# Altium schematic symbol library Sch_Device_veryaz.SchLib: 648 symbols (part 4 of 4)
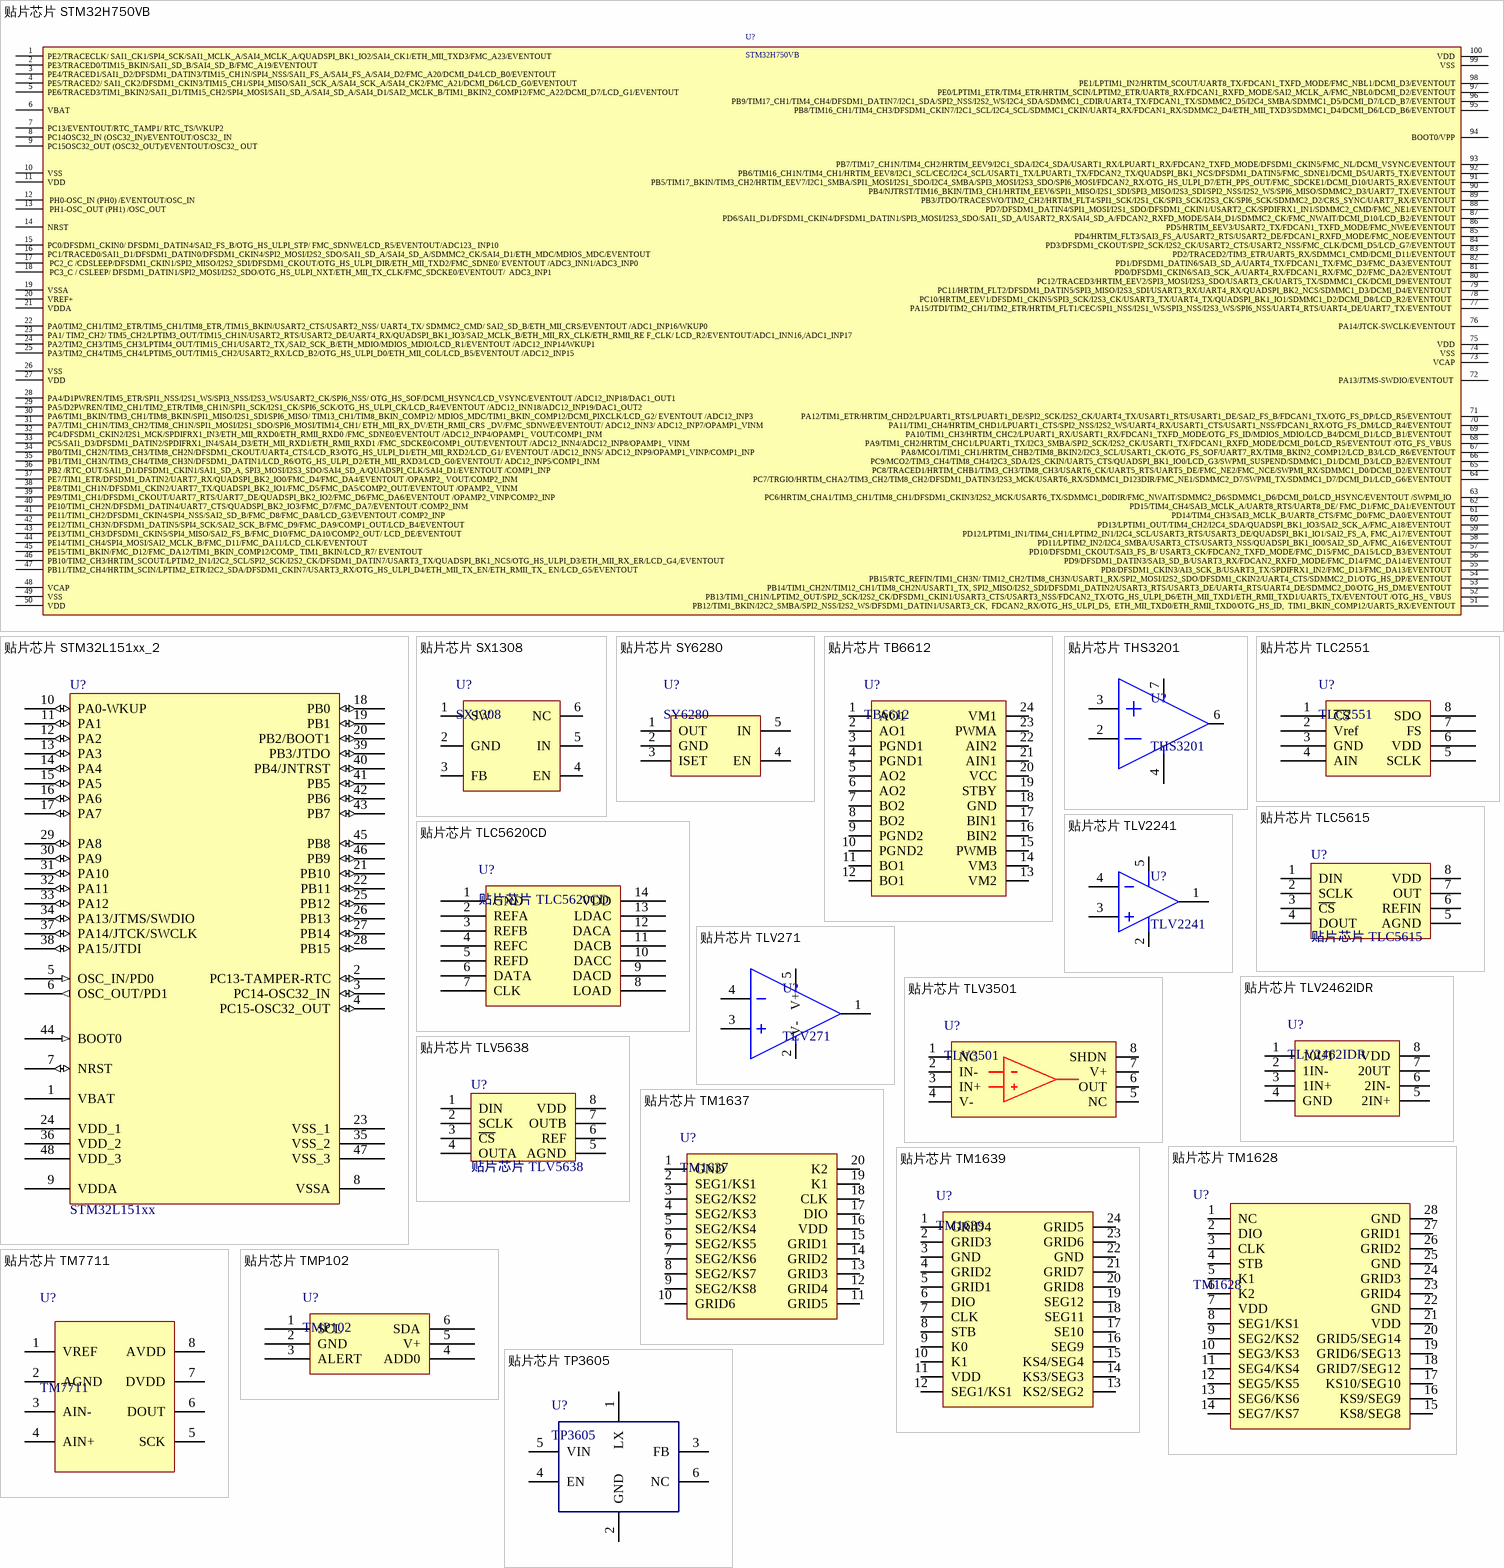
[diagram p34: symbols 贴片芯片 STM32H750VB to 贴片芯片 TP3605]

## 贴片芯片 STM32H750VB
designator U?, comment STM32H750VB
名称: 贴片芯片; 封装: LQFP100; 单位: 片
footprint LQFP100
pins: 1 PE2/TRACECLK/ SAI1_CK1/SPI4_SCK/SAI1_MCLK_A/SAI4_MCLK_A/QUADSPI_BK1_IO2/SAI4_CK1/ETH_MII_TXD3/FMC_A23/EVENTOUT  , 2 PE3/TRACED0/TIM15_BKIN/SAI1_SD_B/SAI4_SD_B/FMC_A19/EVENTOUT  , 3 PE4/TRACED1/SAI1_D2/DFSDM1_DATIN3/TIM15_CH1N/SPI4_NSS/SAI1_FS_A/SAI4_FS_A/SAI4_D2/FMC_A20/DCMI_D4/LCD_B0/EVENTOUT  , 4 PE5/TRACED2/ SAI1_CK2/DFSDM1_CKIN3/TIM15_CH1/SPI4_MISO/SAI1_SCK_A/SAI4_SCK_A/SAI4_CK2/FMC_A21/DCMI_D6/LCD_G0/EVENTOUT  , 5 PE6/TRACED3/TIM1_BKIN2/SAI1_D1/TIM15_CH2/SPI4_MOSI/SAI1_SD_A/SAI4_SD_A/SAI4_D1/SAI2_MCLK_B/TIM1_BKIN2_COMP12/FMC_A22/DCMI_D7/LCD_G1/EVENTOUT  , 6 VBAT, 7 PC13/EVENTOUT/RTC_TAMP1/ RTC_TS/WKUP2 , 8 PC14OSC32_IN (OSC32_IN)/EVENTOUT/OSC32_ IN, 9 PC15OSC32_OUT (OSC32_OUT)/EVENTOUT/OSC32_ OUT, 10 VSS, 11 VDD, 12  PH0-OSC_IN (PH0) /EVENTOUT/OSC_IN, 13  PH1-OSC_OUT (PH1) /OSC_OUT, 14 NRST, 15 PC0/DFSDM1_CKIN0/ DFSDM1_DATIN4/SAI2_FS_B/OTG_HS_ULPI_STP/ FMC_SDNWE/LCD_R5/EVENTOUT/ADC123_ INP10    , 16 PC1/TRACED0/SAI1_D1/DFSDM1_DATIN0/DFSDM1_CKIN4/SPI2_MOSI/I2S2_SDO/SAI1_SD_A/SAI4_SD_A/SDMMC2_CK/SAI4_D1/ETH_MDC/MDIOS_MDC/EVENTOUT  , 17  PC2_C /CDSLEEP/DFSDM1_CKIN1/SPI2_MISO/I2S2_SDI/DFSDM1_CKOUT/OTG_HS_ULPI_DIR/ETH_MII_TXD2/FMC_SDNE0/ EVENTOUT /ADC3_INN1/ADC3_INP0   , 18  PC3_C / CSLEEP/ DFSDM1_DATIN1/SPI2_MOSI/I2S2_SDO/OTG_HS_ULPI_NXT/ETH_MII_TX_CLK/FMC_SDCKE0/EVENTOUT/  ADC3_INP1 , 19 VSSA, 20 VREF+, 21 VDDA, 22 PA0/TIM2_CH1/TIM2_ETR/TIM5_CH1/TIM8_ETR,/TIM15_BKIN/USART2_CTS/USART2_NSS/ UART4_TX/ SDMMC2_CMD/ SAI2_SD_B/ETH_MII_CRS/EVENTOUT /ADC1_INP16/WKUP0 , 23 PA1/ TIM2_CH2/ TIM5_CH2/LPTIM3_OUT/TIM15_CH1N/USART2_RTS/USART2_DE/UART4_RX/QUADSPI_BK1_IO3/SAI2_MCLK_B/ETH_MII_RX_CLK/ETH_RMII_RE F_CLK/ LCD_R2/EVENTOUT/ADC1_INN16,/ADC1_INP17    , 24 PA2/TIM2_CH3/TIM5_CH3/LPTIM4_OUT/TIM15_CH1/USART2_TX,/SAI2_SCK_B/ETH_MDIO/MDIOS_MDIO/LCD_R1/EVENTOUT /ADC12_INP14/WKUP1  , 25 PA3/TIM2_CH4/TIM5_CH4/LPTIM5_OUT/TIM15_CH2/USART2_RX/LCD_B2/OTG_HS_ULPI_D0/ETH_MII_COL/LCD_B5/EVENTOUT /ADC12_INP15  , 26 VSS, 27 VDD, 28 PA4/D1PWREN/TIM5_ETR/SPI1_NSS/I2S1_WS/SPI3_NSS/I2S3_WS/USART2_CK/SPI6_NSS/ OTG_HS_SOF/DCMI_HSYNC/LCD_VSYNC/EVENTOUT /ADC12_INP18/DAC1_OUT1  , 29 PA5/D2PWREN/TIM2_CH1/TIM2_ETR/TIM8_CH1N/SPI1_SCK/I2S1_CK/SPI6_SCK/OTG_HS_ULPI_CK/LCD_R4/EVENTOUT /ADC12_INN18/ADC12_INP19/DAC1_OUT2  , 30 PA6/TIM1_BKIN/TIM3_CH1/TIM8_BKIN/SPI1_MISO/I2S1_SDI/SPI6_MISO/ TIM13_CH1/TIM8_BKIN_COMP12/ MDIOS_MDC/TIM1_BKIN_COMP12/DCMI_PIXCLK/LCD_G2/ EVENTOUT /ADC12_INP3  , 31 PA7/TIM1_CH1N/TIM3_CH2/TIM8_CH1N/SPI1_MOSI/I2S1_SDO/SPI6_MOSI/TIM14_CH1/ ETH_MII_RX_DV/ETH_RMII_CRS _DV/FMC_SDNWE/EVENTOUT/ ADC12_INN3/ ADC12_INP7/OPAMP1_VINM  , 32 PC4/DFSDM1_CKIN2/I2S1_MCK/SPDIFRX1_IN3/ETH_MII_RXD0/ETH_RMII_RXD0 /FMC_SDNE0/EVENTOUT /ADC12_INP4/OPAMP1_ VOUT/COMP1_INM  , 33 PC5/SAI1_D3/DFSDM1_DATIN2/SPDIFRX1_IN4/SAI4_D3/ETH_MII_RXD1/ETH_RMII_RXD1 /FMC_SDCKE0/COMP1_OUT/EVENTOUT /ADC12_INN4/ADC12_INP8/OPAMP1_ VINM  , 34 PB0/TIM1_CH2N/TIM3_CH3/TIM8_CH2N/DFSDM1_CKOUT/UART4_CTS/LCD_R3/OTG_HS_ULPI_D1/ETH_MII_RXD2/LCD_G1/ EVENTOUT /ADC12_INN5/ ADC12_INP9/OPAMP1_VINP/COMP1_INP  , 35 PB1/TIM1_CH3N/TIM3_CH4/TIM8_CH3N/DFSDM1_DATIN1/LCD_R6/OTG_HS_ULPI_D2/ETH_MII_RXD3/LCD_G0/EVENTOUT/ ADC12_INP5/COMP1_INM  , 36 PB2 /RTC_OUT/SAI1_D1/DFSDM1_CKIN1/SAI1_SD_A, SPI3_MOSI/I2S3_SDO/SAI4_SD_A/QUADSPI_CLK/SAI4_D1/EVENTOUT /COMP1_INP  , 37 PE7/TIM1_ETR/DFSDM1_DATIN2/UART7_RX/QUADSPI_BK2_IO0/FMC_D4/FMC_DA4/EVENTOUT /OPAMP2_ VOUT/COMP2_INM  , 38 PE8/TIM1_CH1N/DFSDM1_CKIN2/UART7_TX/QUADSPI_BK2_IO1/FMC_D5/FMC_DA5/COMP2_OUT/EVENTOUT /OPAMP2_ VINM  , 39 PE9/TIM1_CH1/DFSDM1_CKOUT/UART7_RTS/UART7_DE/QUADSPI_BK2_IO2/FMC_D6/FMC_DA6/EVENTOUT /OPAMP2_VINP/COMP2_INP  , 40 PE10/TIM1_CH2N/DFSDM1_DATIN4/UART7_CTS/QUADSPI_BK2_IO3/FMC_D7/FMC_DA7/EVENTOUT /COMP2_INM  , 41 PE11/TIM1_CH2/DFSDM1_CKIN4/SPI4_NSS/SAI2_SD_B/FMC_D8/FMC_DA8/LCD_G3/EVENTOUT /COMP2_INP  , 42 PE12/TIM1_CH3N/DFSDM1_DATIN5/SPI4_SCK/SAI2_SCK_B/FMC_D9/FMC_DA9/COMP1_OUT/LCD_B4/EVENTOUT, 43 PE13/TIM1_CH3/DFSDM1_CKIN5/SPI4_MISO/SAI2_FS_B/FMC_D10/FMC_DA10/COMP2_OUT/ LCD_DE/EVENTOUT  , 44 PE14/TIM1_CH4/SPI4_MOSI/SAI2_MCLK_B/FMC_D11/FMC_DA11/LCD_CLK/EVENTOUT  , 45 PE15/TIM1_BKIN/FMC_D12/FMC_DA12/TIM1_BKIN_COMP12/COMP_ TIM1_BKIN/LCD_R7/ EVENTOUT  , 46 PB10/TIM2_CH3/HRTIM_SCOUT/LPTIM2_IN1/I2C2_SCL/SPI2_SCK/I2S2_CK/DFSDM1_DATIN7/USART3_TX/QUADSPI_BK1_NCS/OTG_HS_ULPI_D3/ETH_MII_RX_ER/LCD_G4,/EVENTOUT  , 47 PB11/TIM2_CH4/HRTIM_SCIN/LPTIM2_ETR/I2C2_SDA/DFSDM1_CKIN7/USART3_RX/OTG_HS_ULPI_D4/ETH_MII_TX_EN/ETH_RMII_TX_ EN/LCD_G5/EVENTOUT  , 48 VCAP, 49 VSS, 50 VDD, 51 PB12/TIM1_BKIN/I2C2_SMBA/SPI2_NSS/I2S2_WS/DFSDM1_DATIN1/USART3_CK,  FDCAN2_RX/OTG_HS_ULPI_D5,  ETH_MII_TXD0/ETH_RMII_TXD0/OTG_HS_ID,  TIM1_BKIN_COMP12/UART5_RX/EVENTOUT, 52 PB13/TIM1_CH1N/LPTIM2_OUT/SPI2_SCK/I2S2_CK/DFSDM1_CKIN1/USART3_CTS/USART3_NSS/FDCAN2_TX/OTG_HS_ULPI_D6/ETH_MII_TXD1/ETH_RMII_TXD1/UART5_TX/EVENTOUT /OTG_HS_ VBUS  , 53 PB14/TIM1_CH2N/TIM12_CH1/TIM8_CH2N/USART1_TX, SPI2_MISO/I2S2_SDI/DFSDM1_DATIN2/USART3_RTS/USART3_DE/UART4_RTS/UART4_DE/SDMMC2_D0/OTG_HS_DM/EVENTOUT  , 54  PB15/RTC_REFIN/TIM1_CH3N/ TIM12_CH2/TIM8_CH3N/USART1_RX/SPI2_MOSI/I2S2_SDO/DFSDM1_CKIN2/UART4_CTS/SDMMC2_D1/OTG_HS_DP/EVENTOUT  , 55  PD8/DFSDM1_CKIN3/AI3_SCK_B/USART3_TX/SPDIFRX1_IN2/FMC_D13/FMC_DA13/EVENTOUT  , 56 PD9/DFSDM1_DATIN3/SAI3_SD_B/USART3_RX/FDCAN2_RXFD_MODE/FMC_D14/FMC_DA14/EVENTOUT  , 57 PD10/DFSDM1_CKOUT/SAI3_FS_B/ USART3_CK/FDCAN2_TXFD_MODE/FMC_D15/FMC_DA15/LCD_B3/EVENTOUT  , 58 PD11/LPTIM2_IN2/I2C4_SMBA/USART3_CTS/USART3_NSS/QUADSPI_BK1_IO0/SAI2_SD_A/FMC_A16/EVENTOUT  , 59 PD12/LPTIM1_IN1/TIM4_CH1/LPTIM2_IN1/I2C4_SCL/USART3_RTS/USART3_DE/QUADSPI_BK1_IO1/SAI2_FS_A, FMC_A17/EVENTOUT  , 60  PD13/LPTIM1_OUT/TIM4_CH2/I2C4_SDA/QUADSPI_BK1_IO3/SAI2_SCK_A/FMC_A18/EVENTOUT  , 61 PD14/TIM4_CH3/SAI3_MCLK_B/UART8_CTS/FMC_D0/FMC_DA0/EVENTOUT  , 62 PD15/TIM4_CH4/SAI3_MCLK_A/UART8_RTS/UART8_DE/ FMC_D1/FMC_DA1/EVENTOUT, 63 PC6/HRTIM_CHA1/TIM3_CH1/TIM8_CH1/DFSDM1_CKIN3/I2S2_MCK/USART6_TX/SDMMC1_D0DIR/FMC_NWAIT/SDMMC2_D6/SDMMC1_D6/DCMI_D0/LCD_HSYNC/EVENTOUT /SWPMI_IO  , 64  PC7/TRGIO/HRTIM_CHA2/TIM3_CH2/TIM8_CH2/DFSDM1_DATIN3/I2S3_MCK/USART6_RX/SDMMC1_D123DIR/FMC_NE1/SDMMC2_D7/SWPMI_TX/SDMMC1_D7/DCMI_D1/LCD_G6/EVENTOUT  , 65 PC8/TRACED1/HRTIM_CHB1/TIM3_CH3/TIM8_CH3/USART6_CK/UART5_RTS/UART5_DE/FMC_NE2/FMC_NCE/SWPMI_RX/SDMMC1_D0/DCMI_D2/EVENTOUT  , 66 PC9/MCO2/TIM3_CH4/TIM8_CH4/I2C3_SDA/I2S_CKIN/UART5_CTS/QUADSPI_BK1_IO0/LCD_G3/SWPMI_SUSPEND/SDMMC1_D1/DCMI_D3/LCD_B2/EVENTOUT  , 67  PA8/MCO1/TIM1_CH1/HRTIM_CHB2/TIM8_BKIN2/I2C3_SCL/USART1_CK/OTG_FS_SOF/UART7_RX/TIM8_BKIN2_COMP12/LCD_B3/LCD_R6/EVENTOUT, 68 PA9/TIM1_CH2/HRTIM_CHC1/LPUART1_TX/I2C3_SMBA/SPI2_SCK/I2S2_CK/USART1_TX/FDCAN1_RXFD_MODE/DCMI_D0/LCD_R5/EVENTOUT /OTG_FS_VBUS  , 69 PA10/TIM1_CH3/HRTIM_CHC2/LPUART1_RX/USART1_RX/FDCAN1_TXFD_MODE/OTG_FS_ID/MDIOS_MDIO/LCD_B4/DCMI_D1/LCD_B1/EVENTOUT  , 70 PA11/TIM1_CH4/HRTIM_CHD1/LPUART1_CTS/SPI2_NSS/I2S2_WS/UART4_RX/USART1_CTS/USART1_NSS/FDCAN1_RX/OTG_FS_DM/LCD_R4/EVENTOUT  , 71 PA12/TIM1_ETR/HRTIM_CHD2/LPUART1_RTS/LPUART1_DE/SPI2_SCK/I2S2_CK/UART4_TX/USART1_RTS/USART1_DE/SAI2_FS_B/FDCAN1_TX/OTG_FS_DP/LCD_R5/EVENTOUT  , 72 PA13/JTMS-SWDIO/EVENTOUT , 73 VCAP, 74 VSS, 75 VDD, 76  PA14/JTCK-SWCLK/EVENTOUT, 77 PA15/JTDI/TIM2_CH1/TIM2_ETR/HRTIM_FLT1/CEC/SPI1_NSS/I2S1_WS/SPI3_NSS/I2S3_WS/SPI6_NSS/UART4_RTS/UART4_DE/UART7_TX/EVENTOUT  , 78 PC10/HRTIM_EEV1/DFSDM1_CKIN5/SPI3_SCK/I2S3_CK/USART3_TX/UART4_TX/QUADSPI_BK1_IO1/SDMMC1_D2/DCMI_D8/LCD_R2/EVENTOUT  , 79 PC11/HRTIM_FLT2/DFSDM1_DATIN5/SPI3_MISO/I2S3_SDI/USART3_RX/UART4_RX/QUADSPI_BK2_NCS/SDMMC1_D3/DCMI_D4/EVENTOUT  , 80 PC12/TRACED3/HRTIM_EEV2/SPI3_MOSI/I2S3_SDO/USART3_CK/UART5_TX/SDMMC1_CK/DCMI_D9/EVENTOUT  , 81 PD0/DFSDM1_CKIN6/SAI3_SCK_A/UART4_RX/FDCAN1_RX/FMC_D2/FMC_DA2/EVENTOUT  , 82 PD1/DFSDM1_DATIN6/SAI3_SD_A/UART4_TX/FDCAN1_TX/FMC_D3/FMC_DA3/EVENTOUT  , 83 PD2/TRACED2/TIM3_ETR/UART5_RX/SDMMC1_CMD/DCMI_D11/EVENTOUT, 84 PD3/DFSDM1_CKOUT/SPI2_SCK/I2S2_CK/USART2_CTS/USART2_NSS/FMC_CLK/DCMI_D5/LCD_G7/EVENTOUT, 85 PD4/HRTIM_FLT3/SAI3_FS_A/USART2_RTS/USART2_DE/FDCAN1_RXFD_MODE/FMC_NOE/EVENTOUT, 86 PD5/HRTIM_EEV3/USART2_TX/FDCAN1_TXFD_MODE/FMC_NWE/EVENTOUT, 87 PD6/SAI1_D1/DFSDM1_CKIN4/DFSDM1_DATIN1/SPI3_MOSI/I2S3_SDO/SAI1_SD_A/USART2_RX/SAI4_SD_A/FDCAN2_RXFD_MODE/SAI4_D1/SDMMC2_CK/FMC_NWAIT/DCMI_D10/LCD_B2/EVENTOUT, 88 PD7/DFSDM1_DATIN4/SPI1_MOSI/I2S1_SDO/DFSDM1_CKIN1/USART2_CK/SPDIFRX1_IN1/SDMMC2_CMD/FMC_NE1/EVENTOUT, 89 PB3/JTDO/TRACESWO/TIM2_CH2/HRTIM_FLT4/SPI1_SCK/I2S1_CK/SPI3_SCK/I2S3_CK/SPI6_SCK/SDMMC2_D2/CRS_SYNC/UART7_RX/EVENTOUT, 90 PB4/NJTRST/TIM16_BKIN/TIM3_CH1/HRTIM_EEV6/SPI1_MISO/I2S1_SDI/SPI3_MISO/I2S3_SDI/SPI2_NSS/I2S2_WS/SPI6_MISO/SDMMC2_D3/UART7_TX/EVENTOUT, 91 PB5/TIM17_BKIN/TIM3_CH2/HRTIM_EEV7/I2C1_SMBA/SPI1_MOSI/I2S1_SDO/I2C4_SMBA/SPI3_MOSI/I2S3_SDO/SPI6_MOSI/FDCAN2_RX/OTG_HS_ULPI_D7/ETH_PPS_OUT/FMC_SDCKE1/DCMI_D10/UART5_RX/EVENTOUT, 92 PB6/TIM16_CH1N/TIM4_CH1/HRTIM_EEV8/I2C1_SCL/CEC/I2C4_SCL/USART1_TX/LPUART1_TX/FDCAN2_TX/QUADSPI_BK1_NCS/DFSDM1_DATIN5/FMC_SDNE1/DCMI_D5/UART5_TX/EVENTOUT, 93 PB7/TIM17_CH1N/TIM4_CH2/HRTIM_EEV9/I2C1_SDA/I2C4_SDA/USART1_RX/LPUART1_RX/FDCAN2_TXFD_MODE/DFSDM1_CKIN5/FMC_NL/DCMI_VSYNC/EVENTOUT, 94 BOOT0/VPP, 95 PB8/TIM16_CH1/TIM4_CH3/DFSDM1_CKIN7/I2C1_SCL/I2C4_SCL/SDMMC1_CKIN/UART4_RX/FDCAN1_RX/SDMMC2_D4/ETH_MII_TXD3/SDMMC1_D4/DCMI_D6/LCD_B6/EVENTOUT, 96 PB9/TIM17_CH1/TIM4_CH4/DFSDM1_DATIN7/I2C1_SDA/SPI2_NSS/I2S2_WS/I2C4_SDA/SDMMC1_CDIR/UART4_TX/FDCAN1_TX/SDMMC2_D5/I2C4_SMBA/SDMMC1_D5/DCMI_D7/LCD_B7/EVENTOUT, 97 PE0/LPTIM1_ETR/TIM4_ETR/HRTIM_SCIN/LPTIM2_ETR/UART8_RX/FDCAN1_RXFD_MODE/SAI2_MCLK_A/FMC_NBL0/DCMI_D2/EVENTOUT, 98 PE1/LPTIM1_IN2/HRTIM_SCOUT/UART8_TX/FDCAN1_TXFD_MODE/FMC_NBL1/DCMI_D3/EVENTOUT, 99 VSS, 100 VDD

## 贴片芯片 STM32L151xx_2
designator U?, comment STM32L151xx
单片机; 单位: 片; 封装: LPQFP48; 名称: 贴片芯片
footprint LQFP48
pins: 1 VBAT (power), 2 PC13-TAMPER-RTC (io), 3 PC14-OSC32_IN (io), 4 PC15-OSC32_OUT (io), 5 OSC_IN/PD0 (in), 6 OSC_OUT/PD1 (out), 7 NRST (io), 8 VSSA (power), 9 VDDA (power), 10 PA0-WKUP (io), 11 PA1 (io), 12 PA2 (io), 13 PA3 (io), 14 PA4 (io), 15 PA5 (io), 16 PA6 (io), 17 PA7 (io), 18 PB0 (io), 19 PB1 (io), 20 PB2/BOOT1 (io), 21 PB10 (io), 22 PB11 (io), 23 VSS_1 (power), 24 VDD_1 (power), 25 PB12 (io), 26 PB13 (io), 27 PB14 (io), 28 PB15 (io), 29 PA8 (io), 30 PA9 (io), 31 PA10 (io), 32 PA11 (io), 33 PA12 (io), 34 PA13/JTMS/SWDIO (io), 35 VSS_2 (power), 36 VDD_2 (power), 37 PA14/JTCK/SWCLK (io), 38 PA15/JTDI (io), 39 PB3/JTDO (io), 40 PB4/JNTRST (io), 41 PB5 (io), 42 PB6 (io), 43 PB7 (io), 44 BOOT0 (in), 45 PB8 (io), 46 PB9 (io), 47 VSS_3 (power), 48 VDD_3 (power)

## 贴片芯片 SX1308
designator U?, comment SX1308
单位: 片; 名称: 芯片; 封装: SOT23-6
footprint SOT23-6
pins: 1 SW, 2 GND, 3 FB, 4 EN, 5 IN, 6 NC

## 贴片芯片 SY6280
designator U?, comment SY6280
单位: 片; 封装: SOT23-5; 名称: 芯片
footprint SOT23-5
pins: 1 OUT, 2 GND, 3 ISET, 4 EN, 5 IN

## 贴片芯片 TB6612
designator U?, comment TB6612
电机驱动; 单位: 片; 封装: SSOP24; 名称: 贴片芯片
footprint SSOP24
pins: 1 AO1, 2 AO1, 3 PGND1, 4 PGND1, 5 AO2, 6 AO2, 7 BO2, 8 BO2, 9 PGND2, 10 PGND2, 11 BO1, 12 BO1, 13 VM2, 14 VM3, 15 PWMB, 16 BIN2, 17 BIN1, 18 GND, 19 STBY, 20 VCC, 21 AIN1, 22 AIN2, 23 PWMA, 24 VM1

## 贴片芯片 THS3201
designator U?, comment THS3201
单位: 片; 封装: SOIC8; 名称: 贴片芯片
footprint SOIC8
pins: 1 NC hidden, 2 VIN-, 3 VIN+, 4 VS-, 5 NC hidden, 6 OUT, 7 VS+, 8 NC hidden

## 贴片芯片 TLC2551
designator U?, comment TLC2551
AD; 名称: 芯片; 封装: SOIC8; 单位: 片
footprint SOIC8
pins: 1 ~{CS}, 2 Vref, 3 GND, 4 AIN, 5 SCLK, 6 VDD, 7 FS, 8 SDO

## 贴片芯片 TLC5615
designator U?
AD; 单位: 片; 封装: SOIC8; 名称: 贴片芯片
footprint SOIC8
pins: 1 DIN, 2 SCLK, 3 ~{CS}, 4 DOUT, 5 AGND, 6 REFIN, 7 OUT, 8 VDD

## 贴片芯片 TLC5620CD
designator U?
AD; 单位: 片; 封装: SOIC14; 名称: 贴片芯片
footprint SO14 (Small Outline; 14 Leads; Body Width 3.9 mm; Pitch 1.27 mm)
pins: 1 GND, 2 REFA, 3 REFB, 4 REFC, 5 REFD, 6 DATA, 7 CLK, 8 LOAD, 9 DACD, 10 DACC, 11 DACB, 12 DACA, 13 LDAC, 14 VDD

## 贴片芯片 TLV271
designator U?, comment TLV271
单位: 片; 封装: SOT25; 名称: 贴片芯片
footprint SOT25
pins: 1 OUT, 2 V-, 3 IN+, 4 IN-, 5 V+

## 贴片芯片 TLV2241
designator U?, comment TLV2241
单位: 片; 封装: SOT25; 名称: 贴片芯片
footprint SOT25
pins: 1 OUT, 2 V-, 3 IN+, 4 IN-, 5 V+

## 贴片芯片 TLV2462IDR
designator U?, comment TLV2462IDR
单位: 片; 封装: SOIC8; 名称: 贴片芯片
footprint SOIC8
pins: 1 10UT, 2 1IN-, 3 1IN+, 4 GND, 5 2IN+, 6 2IN-, 7 20UT, 8 VDD

## 贴片芯片 TLV3501
designator U?, comment TLV3501
名称: 贴片芯片; 单位: 片; 封装: SOIC8
footprint SOIC8
pins: 1 NC, 2 IN-, 3 IN+, 4 V-, 5 NC, 6 OUT, 7 V+, 8 SHDN

## 贴片芯片 TLV5638
designator U?
封装: SOIC8; 单位: 片; 名称: 芯片
footprint SOIC8
pins: 1 DIN, 2 SCLK, 3 ~{CS}, 4 OUTA, 5 AGND, 6 REF, 7 OUTB, 8 VDD

## 贴片芯片 TM1628
designator U?, comment TM1628
名称: 贴片芯片; 封装: sop28; 单位: 个
footprint SOP28 (Footprint not found)
pins: 1 NC, 2 DIO, 3 CLK, 4 STB, 5 K1, 6 K2, 7 VDD, 8 SEG1/KS1, 9 SEG2/KS2, 10 SEG3/KS3, 11 SEG4/KS4, 12 SEG5/KS5, 13 SEG6/KS6, 14 SEG7/KS7, 15 KS8/SEG8, 16 KS9/SEG9, 17 KS10/SEG10, 18 GRID7/SEG12, 19 GRID6/SEG13, 20 GRID5/SEG14, 21 VDD, 22 GND, 23 GRID4, 24 GRID3, 25 GND, 26 GRID2, 27 GRID1, 28 GND

## 贴片芯片 TM1637
designator U?, comment TM1637
单位: 片; 封装: SOP20; 名称: 贴片芯片
footprint SOP20 (Footprint not found)
pins: 1 GND, 2 SEG1/KS1, 3 SEG2/KS2, 4 SEG2/KS3, 5 SEG2/KS4, 6 SEG2/KS5, 7 SEG2/KS6, 8 SEG2/KS7, 9 SEG2/KS8, 10 GRID6, 11 GRID5, 12 GRID4, 13 GRID3, 14 GRID2, 15 GRID1, 16 VDD, 17 DIO, 18 CLK, 19 K1, 20 K2

## 贴片芯片 TM1639
designator U?, comment TM1639
LED驱动 8段8位 4*2按键; 单位: 片; 封装: SOP20; 名称: 贴片芯片
footprint SOP24 (Footprint not found)
pins: 1 GRID4, 2 GRID3, 3 GND, 4 GRID2, 5 GRID1, 6 DIO, 7 CLK, 8 STB, 9 K0, 10 K1, 11 VDD, 12 SEG1/KS1, 13 KS2/SEG2, 14 KS3/SEG3, 15 KS4/SEG4, 16 SEG9, 17 SE10, 18 SEG11, 19 SEG12, 20 GRID8, 21 GRID7, 22 GND, 23 GRID6, 24 GRID5

## 贴片芯片 TM7711
designator U?, comment TM7711
AD24位; 名称: 贴片芯片; 封装: SOIC8; 单位: 个
footprint SOIC8
pins: 1 VREF, 2 AGND, 3 AIN-, 4 AIN+, 5 SCK, 6 DOUT, 7 DVDD, 8 AVDD

## 贴片芯片 TMP102
designator U?, comment TMP102
单位: 片; 封装: SOT53; 名称: 贴片芯片
footprint SOT563
pins: 1 SCL, 2 GND, 3 ALERT, 4 ADD0, 5 V+, 6 SDA

## 贴片芯片 TP3605
designator U?, comment TP3605
名称: 芯片; 封装: SOT23-6; 单位: 片
footprint SOT-23-6
pins: 1 LX, 2 GND, 3 FB, 4 EN, 5 VIN, 6 NC

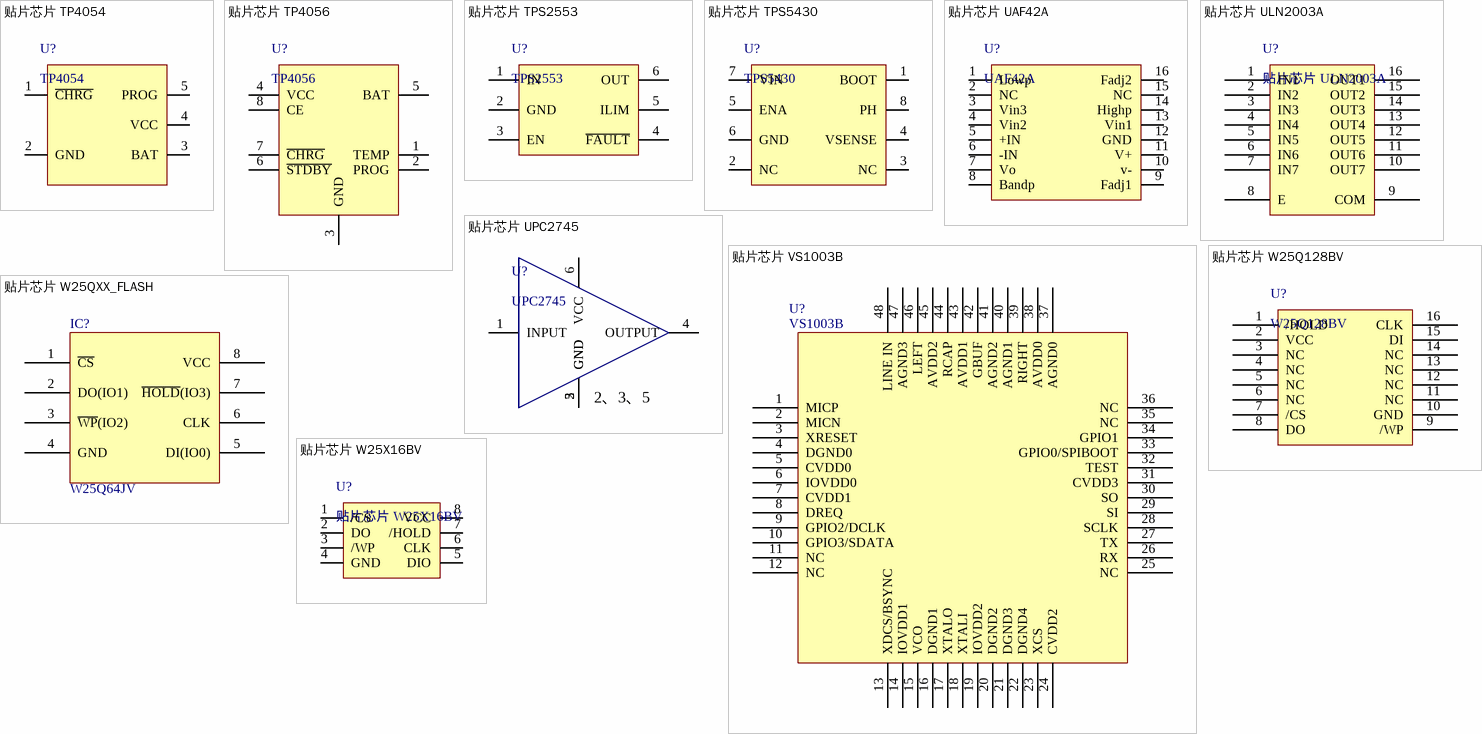
[diagram p26: symbols 贴片芯片 TP4054 to 贴片芯片 W25X16BV]

## 贴片芯片 TP4054
designator U?, comment TP4054
1A电池充电; 名称: 芯片; 封装: SOT23-5; 单位: 片
footprint sot25
pins: 1 ~{CHRG}, 2 GND, 3 BAT, 4 VCC, 5 PROG

## 贴片芯片 TP4056
designator U?, comment TP4056
1A电池充电; 名称: 芯片; 封装: SOIC8; 单位: 片
footprint SOIC8
pins: 1 TEMP, 2 PROG, 3 GND, 4 VCC, 5 BAT, 6 ~{STDBY}, 7 ~{CHRG}, 8 CE

## 贴片芯片 TPS2553
designator U?, comment TPS2553
5V限流; 名称: 芯片; 封装: SOT23-6; 单位: 片
footprint SOT-23-6
pins: 1 IN, 2 GND, 3 EN, 4 ~{FAULT}, 5 ILIM, 6 OUT

## 贴片芯片 TPS5430
designator U?, comment TPS5430
封装: SOIC8; 名称: 芯片; 单位: 片
footprint SOIC8
pins: 1 BOOT, 2 NC, 3 NC, 4 VSENSE, 5 ENA, 6 GND, 7 VIN, 8 PH

## 贴片芯片 UAF42A
designator U?, comment UAF42A
滤波器; 封装: SOP16; 名称: 贴片芯片; 单位: 个
footprint SOP16
pins: 1 Lowp, 2 NC, 3 Vin3, 4 Vin2, 5 +IN, 6 -IN, 7 Vo, 8 Bandp, 9 Fadj1, 10 v-, 11 V+, 12 GND, 13 Vin1, 14 Highp, 15 NC, 16 Fadj2

## 贴片芯片 ULN2003A
designator U?
单位: 片; 封装: SOIC16; 名称: 贴片芯片
footprint SOIC16 (Small Outline; 16 Leads; Body Width 3.9 mm; Pitch 1.27 mm)
pins: 1 IN1, 2 IN2, 3 IN3, 4 IN4, 5 IN5, 6 IN6, 7 IN7, 8 E, 9 COM, 10 OUT7, 11 OUT6, 12 OUT5, 13 OUT4, 14 OUT3, 15 OUT2, 16 OUT1

## 贴片芯片 UPC2745
designator U?, comment UPC2745
footprint SOT23-6 UPC2745
pins: 1 INPUT, 2 GND, 3 GND, 4 OUTPUT, 5 GND, 6 VCC
text: 2、3、5

## 贴片芯片 VS1003B
designator U?, comment VS1003B
名称: 贴片电阻; 封装: LQFP48; 单位: 个
footprint LQFP48
pins: 1 MICP, 2 MICN, 3 XRESET, 4 DGND0, 5 CVDD0, 6 IOVDD0, 7 CVDD1, 8 DREQ, 9 GPIO2/DCLK, 10 GPIO3/SDATA, 11 NC, 12 NC, 13 XDCS/BSYNC, 14 IOVDD1, 15 VCO, 16 DGND1, 17 XTALO, 18 XTALI, 19 IOVDD2, 20 DGND2, 21 DGND3, 22 DGND4, 23 XCS, 24 CVDD2, 25 NC, 26 RX, 27 TX, 28 SCLK, 29 SI, 30 SO, 31 CVDD3, 32 TEST, 33 GPIO0/SPIBOOT, 34 GPIO1, 35 NC, 36 NC, 37 AGND0, 38 AVDD0, 39 RIGHT, 40 AGND1, 41 AGND2, 42 GBUF, 43 AVDD1, 44 RCAP, 45 AVDD2, 46 LEFT, 47 AGND3, 48 LINE IN

## 贴片芯片 W25Q128BV
designator U?, comment W25Q128BV
单位: 片; 封装: SSOP16; 名称: 芯片
footprint SSOP16
pins: 1 /HOLD, 2 VCC, 3 NC, 4 NC, 5 NC, 6 NC, 7 /CS, 8 DO, 9 /WP, 10 GND, 11 NC, 12 NC, 13 NC, 14 NC, 15 DI, 16 CLK

## 贴片芯片 W25QXX_FLASH
designator IC?, comment W25Q64JV
footprint SO8-W
pins: 1 ~{CS}, 2 DO(IO1), 3 ~{WP}(IO2), 4 GND, 5 DI(IO0), 6 CLK, 7 ~{HOLD}(IO3), 8 VCC

## 贴片芯片 W25X16BV
designator U?
单位: 个; 封装: SOIC8; 名称: 贴片芯片
footprint SOIC8
pins: 1 /CS, 2 DO, 3 /WP, 4 GND, 5 DIO, 6 CLK, 7 /HOLD, 8 VCC

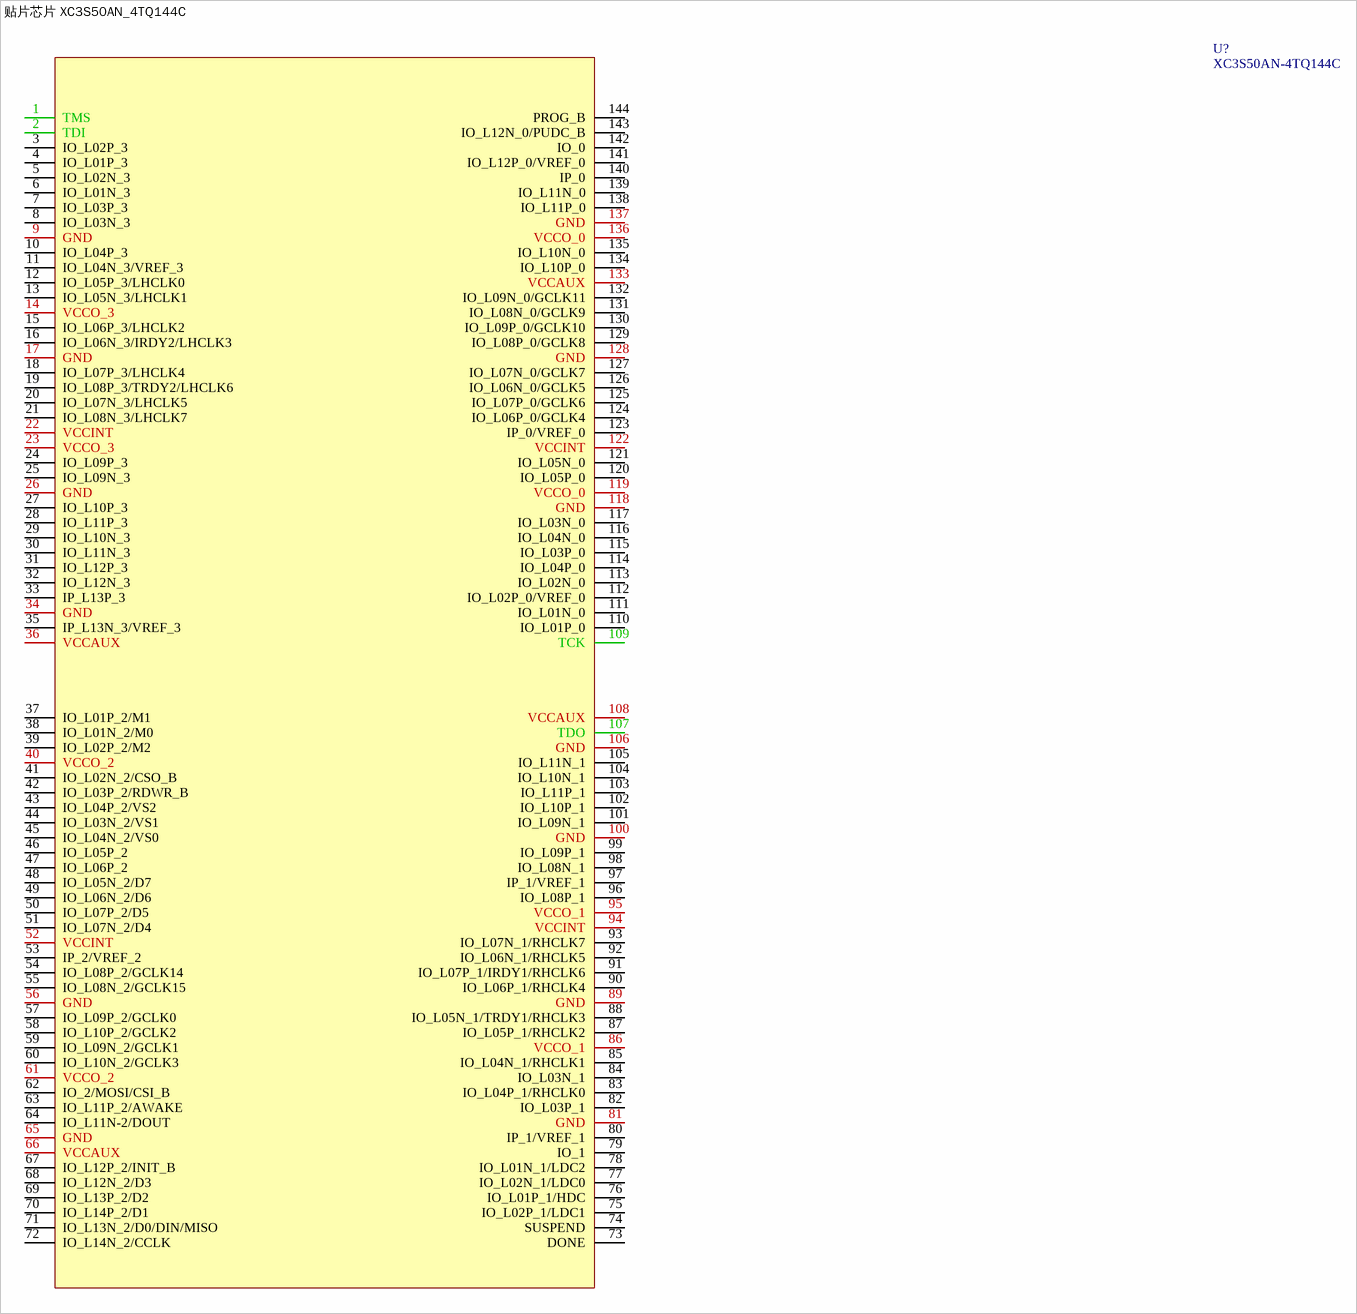
[diagram p27: symbol 贴片芯片 XC3S50AN_4TQ144C]

## 贴片芯片 XC3S50AN_4TQ144C
designator U?, comment XC3S50AN-4TQ144C
单位: 片; 封装: TQ144; 名称: 芯片
footprint TQ144_N (Footprint not found)
pins: 1 TMS, 2 TDI, 3 IO_L02P_3, 4 IO_L01P_3, 5 IO_L02N_3, 6 IO_L01N_3, 7 IO_L03P_3, 8 IO_L03N_3, 9 GND, 10 IO_L04P_3, 11 IO_L04N_3/VREF_3, 12 IO_L05P_3/LHCLK0, 13 IO_L05N_3/LHCLK1, 14 VCCO_3, 15 IO_L06P_3/LHCLK2, 16 IO_L06N_3/IRDY2/LHCLK3, 17 GND, 18 IO_L07P_3/LHCLK4, 19 IO_L08P_3/TRDY2/LHCLK6, 20 IO_L07N_3/LHCLK5, 21 IO_L08N_3/LHCLK7, 22 VCCINT, 23 VCCO_3, 24 IO_L09P_3, 25 IO_L09N_3, 26 GND, 27 IO_L10P_3, 28 IO_L11P_3, 29 IO_L10N_3, 30 IO_L11N_3, 31 IO_L12P_3, 32 IO_L12N_3, 33 IP_L13P_3, 34 GND, 35 IP_L13N_3/VREF_3, 36 VCCAUX, 37 IO_L01P_2/M1, 38 IO_L01N_2/M0, 39 IO_L02P_2/M2, 40 VCCO_2, 41 IO_L02N_2/CSO_B, 42 IO_L03P_2/RDWR_B, 43 IO_L04P_2/VS2, 44 IO_L03N_2/VS1, 45 IO_L04N_2/VS0, 46 IO_L05P_2, 47 IO_L06P_2, 48 IO_L05N_2/D7, 49 IO_L06N_2/D6, 50 IO_L07P_2/D5, 51 IO_L07N_2/D4, 52 VCCINT, 53 IP_2/VREF_2, 54 IO_L08P_2/GCLK14, 55 IO_L08N_2/GCLK15, 56 GND, 57 IO_L09P_2/GCLK0, 58 IO_L10P_2/GCLK2, 59 IO_L09N_2/GCLK1, 60 IO_L10N_2/GCLK3, 61 VCCO_2, 62 IO_2/MOSI/CSI_B, 63 IO_L11P_2/AWAKE, 64 IO_L11N-2/DOUT, 65 GND, 66 VCCAUX, 67 IO_L12P_2/INIT_B, 68 IO_L12N_2/D3, 69 IO_L13P_2/D2, 70 IO_L14P_2/D1, 71 IO_L13N_2/D0/DIN/MISO, 72 IO_L14N_2/CCLK, 73 DONE, 74 SUSPEND, 75 IO_L02P_1/LDC1, 76 IO_L01P_1/HDC, 77 IO_L02N_1/LDC0, 78 IO_L01N_1/LDC2, 79 IO_1, 80 IP_1/VREF_1, 81 GND, 82 IO_L03P_1, 83 IO_L04P_1/RHCLK0, 84 IO_L03N_1, 85 IO_L04N_1/RHCLK1, 86 VCCO_1, 87 IO_L05P_1/RHCLK2, 88 IO_L05N_1/TRDY1/RHCLK3, 89 GND, 90 IO_L06P_1/RHCLK4, 91 IO_L07P_1/IRDY1/RHCLK6, 92 IO_L06N_1/RHCLK5, 93 IO_L07N_1/RHCLK7, 94 VCCINT, 95 VCCO_1, 96 IO_L08P_1, 97 IP_1/VREF_1, 98 IO_L08N_1, 99 IO_L09P_1, 100 GND, 101 IO_L09N_1, 102 IO_L10P_1, 103 IO_L11P_1, 104 IO_L10N_1, 105 IO_L11N_1, 106 GND, 107 TDO, 108 VCCAUX, 109 TCK, 110 IO_L01P_0, 111 IO_L01N_0, 112 IO_L02P_0/VREF_0, 113 IO_L02N_0, 114 IO_L04P_0, 115 IO_L03P_0, 116 IO_L04N_0, 117 IO_L03N_0, 118 GND, 119 VCCO_0, 120 IO_L05P_0, 121 IO_L05N_0, 122 VCCINT, 123 IP_0/VREF_0, 124 IO_L06P_0/GCLK4, 125 IO_L07P_0/GCLK6, 126 IO_L06N_0/GCLK5, 127 IO_L07N_0/GCLK7, 128 GND, 129 IO_L08P_0/GCLK8, 130 IO_L09P_0/GCLK10, 131 IO_L08N_0/GCLK9, 132 IO_L09N_0/GCLK11, 133 VCCAUX, 134 IO_L10P_0, 135 IO_L10N_0, 136 VCCO_0, 137 GND, 138 IO_L11P_0, 139 IO_L11N_0, 140 IP_0, 141 IO_L12P_0/VREF_0, 142 IO_0, 143 IO_L12N_0/PUDC_B, 144 PROG_B

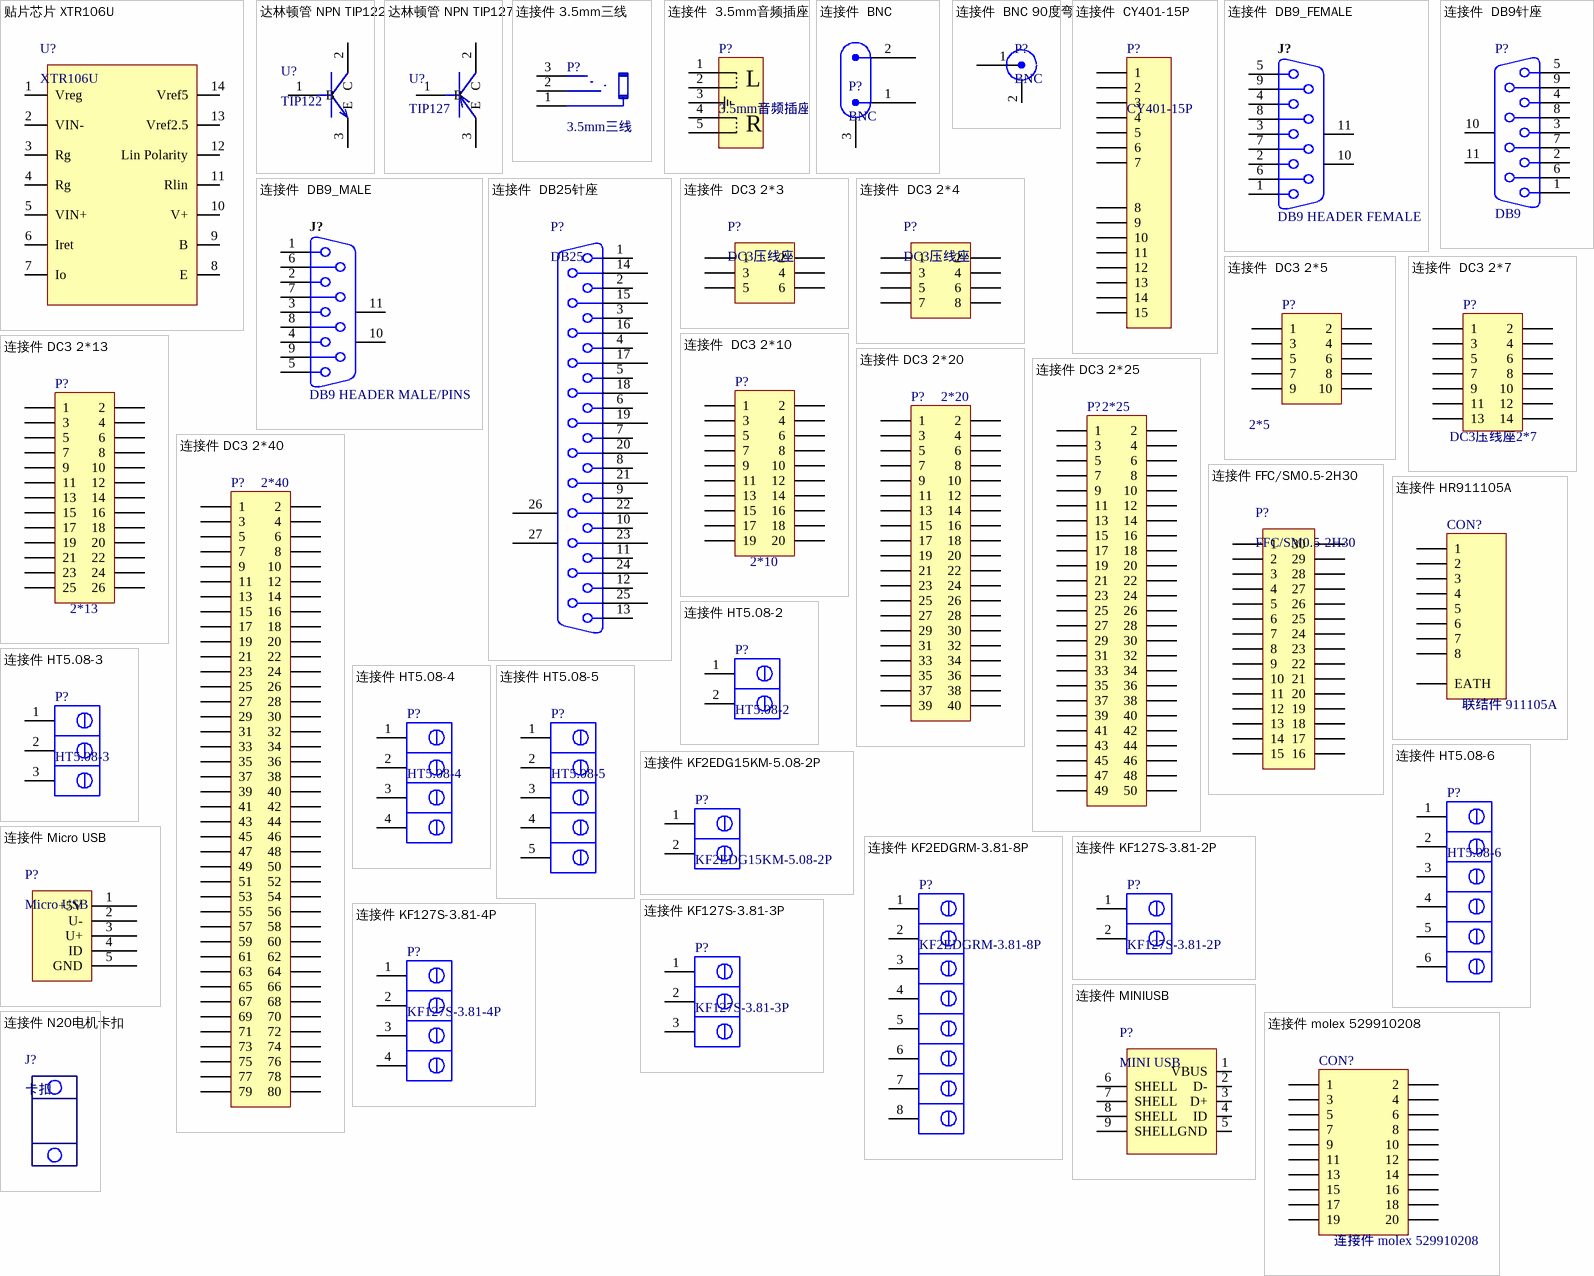
[diagram p28: symbols 贴片芯片 XTR106U to 连接件 N20电机卡扣]

## 贴片芯片 XTR106U
designator U?, comment XTR106U
单位: 片; 封装: SOIC8; 名称: 贴片芯片
footprint SOIC14 (Small Outline; 16 Leads; Body Width 3.9 mm; Pitch 1.27 mm)
pins: 1 Vreg, 2 VIN-, 3 Rg, 4 Rg, 5 VIN+, 6 Iret, 7 Io, 8 E, 9 B, 10 V+, 11 Rlin, 12 Lin Polarity, 13 Vref2.5, 14 Vref5

## 达林顿管 NPN TIP122
designator U?, comment TIP122
名称: 三极管; 封装: TO220; 单位: 片
footprint TO220
pins: 1 B, 2 C, 3 E

## 达林顿管 NPN TIP127
designator U?, comment TIP127
单位: 片; 名称: 三极管; 封装: TO220
footprint TO220
pins: 1 B, 2 C, 3 E

## 连接件 3.5mm三线
designator P?, comment 3.5mm三线
名称: 连接件; 封装: 3.5mm音频插座; 单位: 套
footprint 音频插座 3.5mm三线 (Footprint not found)
pins: 1, 2, 3

## 连接件  3.5mm音频插座
designator P?, comment 3.5mm音频插座
名称: 连接件; 单位: 套; 封装: 3.5mm音频插座
footprint 音频插座 3.5mm
pins: 1, 2, 3, 4, 5
text: L; R

## 连接件  BNC
designator P?, comment BNC
封装: 直插; 名称: 连接件; 单位: 个
footprint BNC_2
pins: 1 X, 2 Y, 3 Z

## 连接件  BNC 90度弯
designator P?, comment BNC
封装: 直插; 名称: 连接件; 单位: 个
footprint BNC_90度弯
pins: 1 X, 2 Y

## 连接件  CY401-15P
designator P?, comment CY401-15P
名称: 连接件; 单位: 个; 封装: CY401-15P
footprint CY401-15P
pins: 1, 2, 3, 4, 5, 6, 7, 8, 9, 10, 11, 12, 13, 14, 15

## 连接件  DB9_FEMALE
designator J?, comment DB9 HEADER FEMALE
单位: 个; 名称: DB9母头; 封装: DB9_FEMALE
footprint DB9_FEMALE
pins: 1, 2, 3, 4, 5, 6, 7, 8, 9, 10, 11

## 连接件  DB9_MALE
designator J?, comment DB9 HEADER MALE/PINS
单位: 个; 名称: DB9公头; 封装: DB9_MALE
footprint DB9_MALE
pins: 1, 2, 3, 4, 5, 6, 7, 8, 9, 10, 11

## 连接件  DB9针座
designator P?, comment DB9
名称: 联结件; Revision: 17-Jul-2002: Re-released for DXP Platform.; 封装: DB9
footprint RS232
pins: 1, 2, 3, 4, 5, 6, 7, 8, 9, 10 MH1, 11 MH2

## 连接件  DB25针座
designator P?, comment DB25
单位: 个; 封装: DB9; 名称: 联结件
footprint DB25
pins: 1, 2, 3, 4, 5, 6, 7, 8, 9, 10, 11, 12, 13, 14, 15, 16, 17, 18, 19, 20, 21, 22, 23, 24, 25, 26, 27

## 连接件  DC3 2*3
designator P?, comment DC3压线座
单位: 个; 封装: 2*3; 名称: 联结件
footprint DC3压线座 2.54 2*3
pins: 1, 2, 3, 4, 5, 6

## 连接件  DC3 2*4
designator P?, comment DC3压线座
单位: 个; 封装: 2*4; 名称: 联结件
footprint DC3压线座 2.54 2*4
pins: 1, 2, 3, 4, 5, 6, 7, 8

## 连接件  DC3 2*5
designator P?, comment 封装: 2*5  (hidden comment: DC3压线座)
名称: 连接件; 单位: 个
footprint DC3压线座 2.54 2*5
pins: 1, 2, 3, 4, 5, 6, 7, 8, 9, 10

## 连接件  DC3 2*7
designator P?, comment 封装: DC3压线座2*7  (hidden comment: DC3压线座)
名称: 连接件; 单位: 个
footprint DC3压线座 2.54 2*7
pins: 1, 2, 3, 4, 5, 6, 7, 8, 9, 10, 11, 12, 13, 14

## 连接件  DC3 2*10
designator P?, comment 封装: 2*10  (hidden comment: DC3压线座)
名称: 联结件; 单位: 个
footprint DC3压线座 2.54 2*10
pins: 1, 2, 3, 4, 5, 6, 7, 8, 9, 10, 11, 12, 13, 14, 15, 16, 17, 18, 19, 20

## 连接件 DC3 2*13
designator P?, comment 封装: 2*13  (hidden comment: DC3压线座)
名称: 连接件; 单位: 个
footprint DC3压线座 2.54 2*10
pins: 1, 2, 3, 4, 5, 6, 7, 8, 9, 10, 11, 12, 13, 14, 15, 16, 17, 18, 19, 20, 21, 22, 23, 24, 25, 26

## 连接件 DC3 2*20
designator P?, comment 封装: 2*20  (hidden comment: DC3压线座)
名称: 连接件; 单位: 个
footprint DC3压线座 2.54 2*20
pins: 1, 2, 3, 4, 5, 6, 7, 8, 9, 10, 11, 12, 13, 14, 15, 16, 17, 18, 19, 20, 21, 22, 23, 24, 25, 26, 27, 28, 29, 30, 31, 32, 33, 34, 35, 36, 37, 38, 39, 40

## 连接件 DC3 2*25
designator P?, comment 封装: 2*25  (hidden comment: DC3压线座)
名称: 连接件; 单位: 个
footprint DC3压线座 2.54 2*20
pins: 1, 2, 3, 4, 5, 6, 7, 8, 9, 10, 11, 12, 13, 14, 15, 16, 17, 18, 19, 20, 21, 22, 23, 24, 25, 26, 27, 28, 29, 30, 31, 32, 33, 34, 35, 36, 37, 38, 39, 40, 41, 42, 43, 44, 45, 46, 47, 48, 49, 50

## 连接件 DC3 2*40
designator P?, comment 封装: 2*40  (hidden comment: DC3压线座)
名称: 连接件; 单位: 个
footprint DC3压线座 2.54 2*40
pins: 1, 2, 3, 4, 5, 6, 7, 8, 9, 10, 11, 12, 13, 14, 15, 16, 17, 18, 19, 20, 21, 22, 23, 24, 25, 26, 27, 28, 29, 30, 31, 32, 33, 34, 35, 36, 37, 38, 39, 40, 41, 42, 43, 44, 45, 46, 47, 48, 49, 50, 51, 52, 53, 54, 55, 56, 57, 58, 59, 60, 61, 62, 63, 64, 65, 66, 67, 68, 69, 70, 71, 72, 73, 74, 75, 76, 77, 78, 79, 80

## 连接件 FFC/SM0.5-2H30
designator P?, comment FFC/SM0.5-2H30
名称: 连接件; 单位: 个; 封装: FFC/SM0.5-2H30
footprint FFC/SM0.5-2H30
pins: 1, 2, 3, 4, 5, 6, 7, 8, 9, 10, 11, 12, 13, 14, 15, 16, 17, 18, 19, 20, 21, 22, 23, 24, 25, 26, 27, 28, 29, 30

## 连接件 HR911105A
designator CON?, comment 联结件 911105A
单位: 个; 名称: RJ45座; 封装: HR911105A
footprint HR911105A (Footprint not found)
pins: 0 EATH, 1, 2, 3, 4, 5, 6, 7, 8
2 alternate drawings of the same symbol

## 连接件 HT5.08-2
designator P?, comment HT5.08-2
名称: 连接件; 单位: 套; 封装: HT5.08-2
footprint HT5.08-2
pins: 1, 2

## 连接件 HT5.08-3
designator P?, comment HT5.08-3
名称: 连接件; 单位: 套; 封装: HT5.08-3
footprint HT5.08-3 (Footprint not found)
pins: 1, 2, 3

## 连接件 HT5.08-4
designator P?, comment HT5.08-4
名称: 连接件; 单位: 套; 封装: HT5.08-4
footprint HT5.08-4 直
pins: 1, 2, 3, 4

## 连接件 HT5.08-5
designator P?, comment HT5.08-5
名称: 连接件; 单位: 套; 封装: HT5.08-5
footprint HT5.08-5 直
pins: 1, 2, 3, 4, 5

## 连接件 HT5.08-6
designator P?, comment HT5.08-6
名称: 连接件; 单位: 套; 封装: HT5.08-6
footprint HT5.08-6
pins: 1, 2, 3, 4, 5, 6

## 连接件 KF2EDG15KM-5.08-2P
designator P?, comment KF2EDG15KM-5.08-2P
名称: 连接件; 单位: 套; 封装: 5.08-2
footprint KF2EDG15KM-5.08-2P
pins: 1, 2

## 连接件 KF2EDGRM-3.81-8P
designator P?, comment KF2EDGRM-3.81-8P
名称: 连接件; 单位: 套; 封装: 3.81-8
footprint KF2EDGRM-3.81-8P (Footprint not found)
pins: 1, 2, 3, 4, 5, 6, 7, 8

## 连接件 KF127S-3.81-2P
designator P?, comment KF127S-3.81-2P
名称: 连接件; 单位: 套; 封装: KF127S-3.81-2p
footprint KF127S-3.81-2P (Footprint not found)
pins: 1, 2

## 连接件 KF127S-3.81-3P
designator P?, comment KF127S-3.81-3P
名称: 连接件; 单位: 套; 封装: KF127S-3.81-3p
footprint KF127S-3.81-3P (Footprint not found)
pins: 1, 2, 3

## 连接件 KF127S-3.81-4P
designator P?, comment KF127S-3.81-4P
名称: 连接件; 单位: 套; 封装: KF127S-3.81-4p
footprint KF127S-3.81-4P
pins: 1, 2, 3, 4

## 连接件 Micro USB
designator P?, comment Micro USB
单位: 个; 封装: 贴片; 名称: Micro USB
footprint USB Micro (Footprint not found)
pins: 1 +5V, 2 U-, 3 U+, 4 ID, 5 GND

## 连接件 MINIUSB
designator P?, comment MINI USB
单位: 个; 名称: 连接件; 封装: MINI USB
footprint USB MINI
pins: 1 VBUS (power), 2 D-, 3 D+, 4 ID (power), 5 GND, 6 SHELL, 7 SHELL, 8 SHELL, 9 SHELL

## 连接件 molex 529910208
designator CON?
footprint molex 529910208
pins: 1, 1 20, 2 18, 2, 3, 3 16, 4 14, 4, 5, 5 12, 6 10, 6, 7, 8, 9, 11, 13, 15, 17, 19
2 alternate drawings of the same symbol

## 连接件 N20电机卡扣
designator J?, comment 卡扣
单位: 个; 封装: 直插; 名称: 卡扣
footprint N20电机卡子

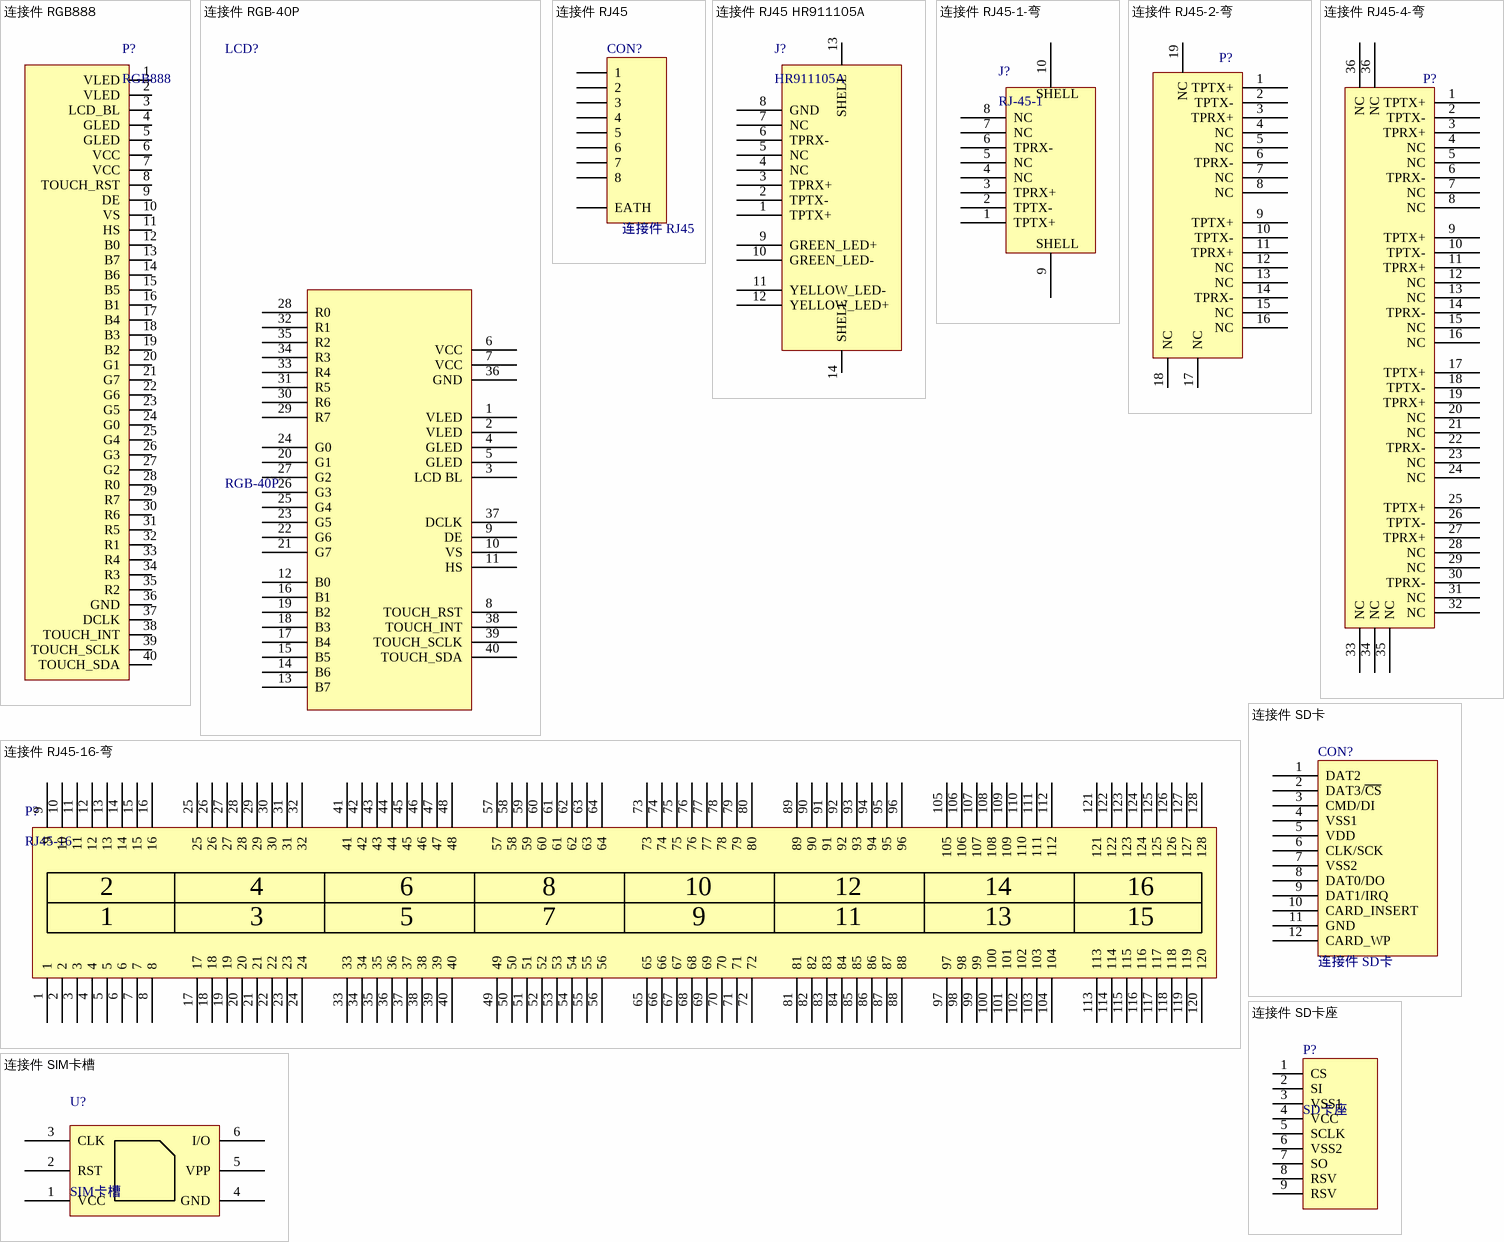
[diagram p29: symbols 连接件 RGB888 to 连接件 SIM卡槽]

## 连接件 RGB888
designator P?, comment RGB888
footprint FPC40P-0.5-FK750M3
pins: 1 VLED, 2 VLED, 3 LCD_BL, 4 GLED, 5 GLED, 6 VCC, 7 VCC, 8 TOUCH_RST, 9 DE, 10 VS, 11 HS, 12 B0, 13 B7, 14 B6, 15 B5, 16 B1, 17 B4, 18 B3, 19 B2, 20 G1, 21 G7, 22 G6, 23 G5, 24 G0, 25 G4, 26 G3, 27 G2, 28 R0, 29 R7, 30 R6, 31 R5, 32 R1, 33 R4, 34 R3, 35 R2, 36 GND, 37 DCLK, 38 TOUCH_INT, 39 TOUCH_SCLK, 40 TOUCH_SDA

## 连接件 RGB-40P
designator LCD?, comment RGB-40P
名称: *; 单位: *; 封装: *
footprint FPC40P-0.5-FK750M3
pins: 1 VLED, 2 VLED, 3 LCD BL, 4 GLED, 5 GLED, 6 VCC, 7 VCC, 8 TOUCH_RST, 9 DE, 10 VS, 11 HS, 12 B0, 13 B7, 14 B6, 15 B5, 16 B1, 17 B4, 18 B3, 19 B2, 20 G1, 21 G7, 22 G6, 23 G5, 24 G0, 25 G4, 26 G3, 27 G2, 28 R0, 29 R7, 30 R6, 31 R5, 32 R1, 33 R4, 34 R3, 35 R2, 36 GND, 37 DCLK, 38 TOUCH_INT, 39 TOUCH_SCLK, 40 TOUCH_SDA

## 连接件 RJ45
designator CON?
footprint HR901170A
pins: 0 EATH, 1, 2, 3, 4, 5, 6, 7, 8
2 alternate drawings of the same symbol

## 连接件 RJ45 HR911105A
designator J?, comment HR911105A
单位: 个; 封转: 直插18.5; 名称: 连接件
footprint RJ45_HR911105A 18/10
pins: 1 TPTX+, 2 TPTX-, 3 TPRX+, 4 NC, 5 NC, 6 TPRX-, 7 NC, 8 GND, 9 GREEN_LED+, 10 GREEN_LED-, 11 YELLOW_LED-, 12 YELLOW_LED+, 13 SHELL, 14 SHELL

## 连接件 RJ45-1-弯
designator J?, comment RJ-45-1
单位: 个; 封转: 直插18.5; 名称: 连接件
footprint RJ45_18.5
pins: 1 TPTX+, 2 TPTX-, 3 TPRX+, 4 NC, 5 NC, 6 TPRX-, 7 NC, 8 NC, 9 SHELL, 10 SHELL

## 连接件 RJ45-2-弯
designator P?, comment RJ45_2  (value not drawn)
footprint RJ45_2
pins: 1 TPTX+, 2 TPTX-, 3 TPRX+, 4 NC, 5 NC, 6 TPRX-, 7 NC, 8 NC, 9 TPTX+, 10 TPTX-, 11 TPRX+, 12 NC, 13 NC, 14 TPRX-, 15 NC, 16 NC, 17 NC, 18 NC, 19 NC

## 连接件 RJ45-4-弯
designator P?, comment RJ45_4  (value not drawn)
footprint RJ45_4
pins: 1 TPTX+, 2 TPTX-, 3 TPRX+, 4 NC, 5 NC, 6 TPRX-, 7 NC, 8 NC, 9 TPTX+, 10 TPTX-, 11 TPRX+, 12 NC, 13 NC, 14 TPRX-, 15 NC, 16 NC, 17 TPTX+, 18 TPTX-, 19 TPRX+, 20 NC, 21 NC, 22 TPRX-, 23 NC, 24 NC, 25 TPTX+, 26 TPTX-, 27 TPRX+, 28 NC, 29 NC, 30 TPRX-, 31 NC, 32 NC, 33 NC, 34 NC, 35 NC, 36 NC, 36 NC

## 连接件 RJ45-16-弯
designator P?, comment RJ45-16
footprint RJ45_16
pins: 1, 2, 3, 4, 5, 6, 7, 8, 9, 10, 11, 12, 13, 14, 15, 16, 17, 18, 19, 20, 21, 22, 23, 24, 25, 26, 27, 28, 29, 30, 31, 32, 33, 34, 35, 36, 37, 38, 39, 40, 41, 42, 43, 44, 45, 46, 47, 48, 49, 50, 51, 52, 53, 54, 55, 56, 57, 58, 59, 60, 61, 62, 63, 64, 65, 66, 67, 68, 69, 70, 71, 72, 73, 74, 75, 76, 77, 78, 79, 80, 81, 82, 83, 84, 85, 86, 87, 88, 89, 90, 91, 92, 93, 94, 95, 96, 97, 98, 99, 100, 101, 102, 103, 104, 105, 106, 107, 108, 109, 110, 111, 112, 113, 114, 115, 116, 117, 118, 119, 120, 121, 122, 123, 124, 125, 126, 127, 128

## 连接件 SD卡
designator CON?
footprint SD_PUSH (www.ouravr.com)
pins: 1 DAT2, 2 DAT3/~{CS}, 3 CMD/DI, 4 VSS1, 5 VDD, 6 CLK/SCK, 7 VSS2, 8 DAT0/DO, 9 DAT1/IRQ, 10 CARD_INSERT, 11 GND, 12 CARD_WP
2 alternate drawings of the same symbol

## 连接件 SD卡座
designator P?, comment SD卡座
名称: 连接件; 单位: 个; 封装: SD卡座
footprint SD_CARD2 (SD_COUNTER)
pins: 1 CS, 2 SI, 3 VSS1, 4 VCC, 5 SCLK, 6 VSS2, 7 SO, 8 RSV, 9 RSV

## 连接件 SIM卡槽
designator U?, comment SIM卡槽
名称: 连接件; 单位: 个; 封装: SIM卡槽
footprint SIMCARD2
pins: 1 VCC, 2 RST, 3 CLK, 4 GND, 5 VPP, 6 I/O
2 alternate drawings of the same symbol

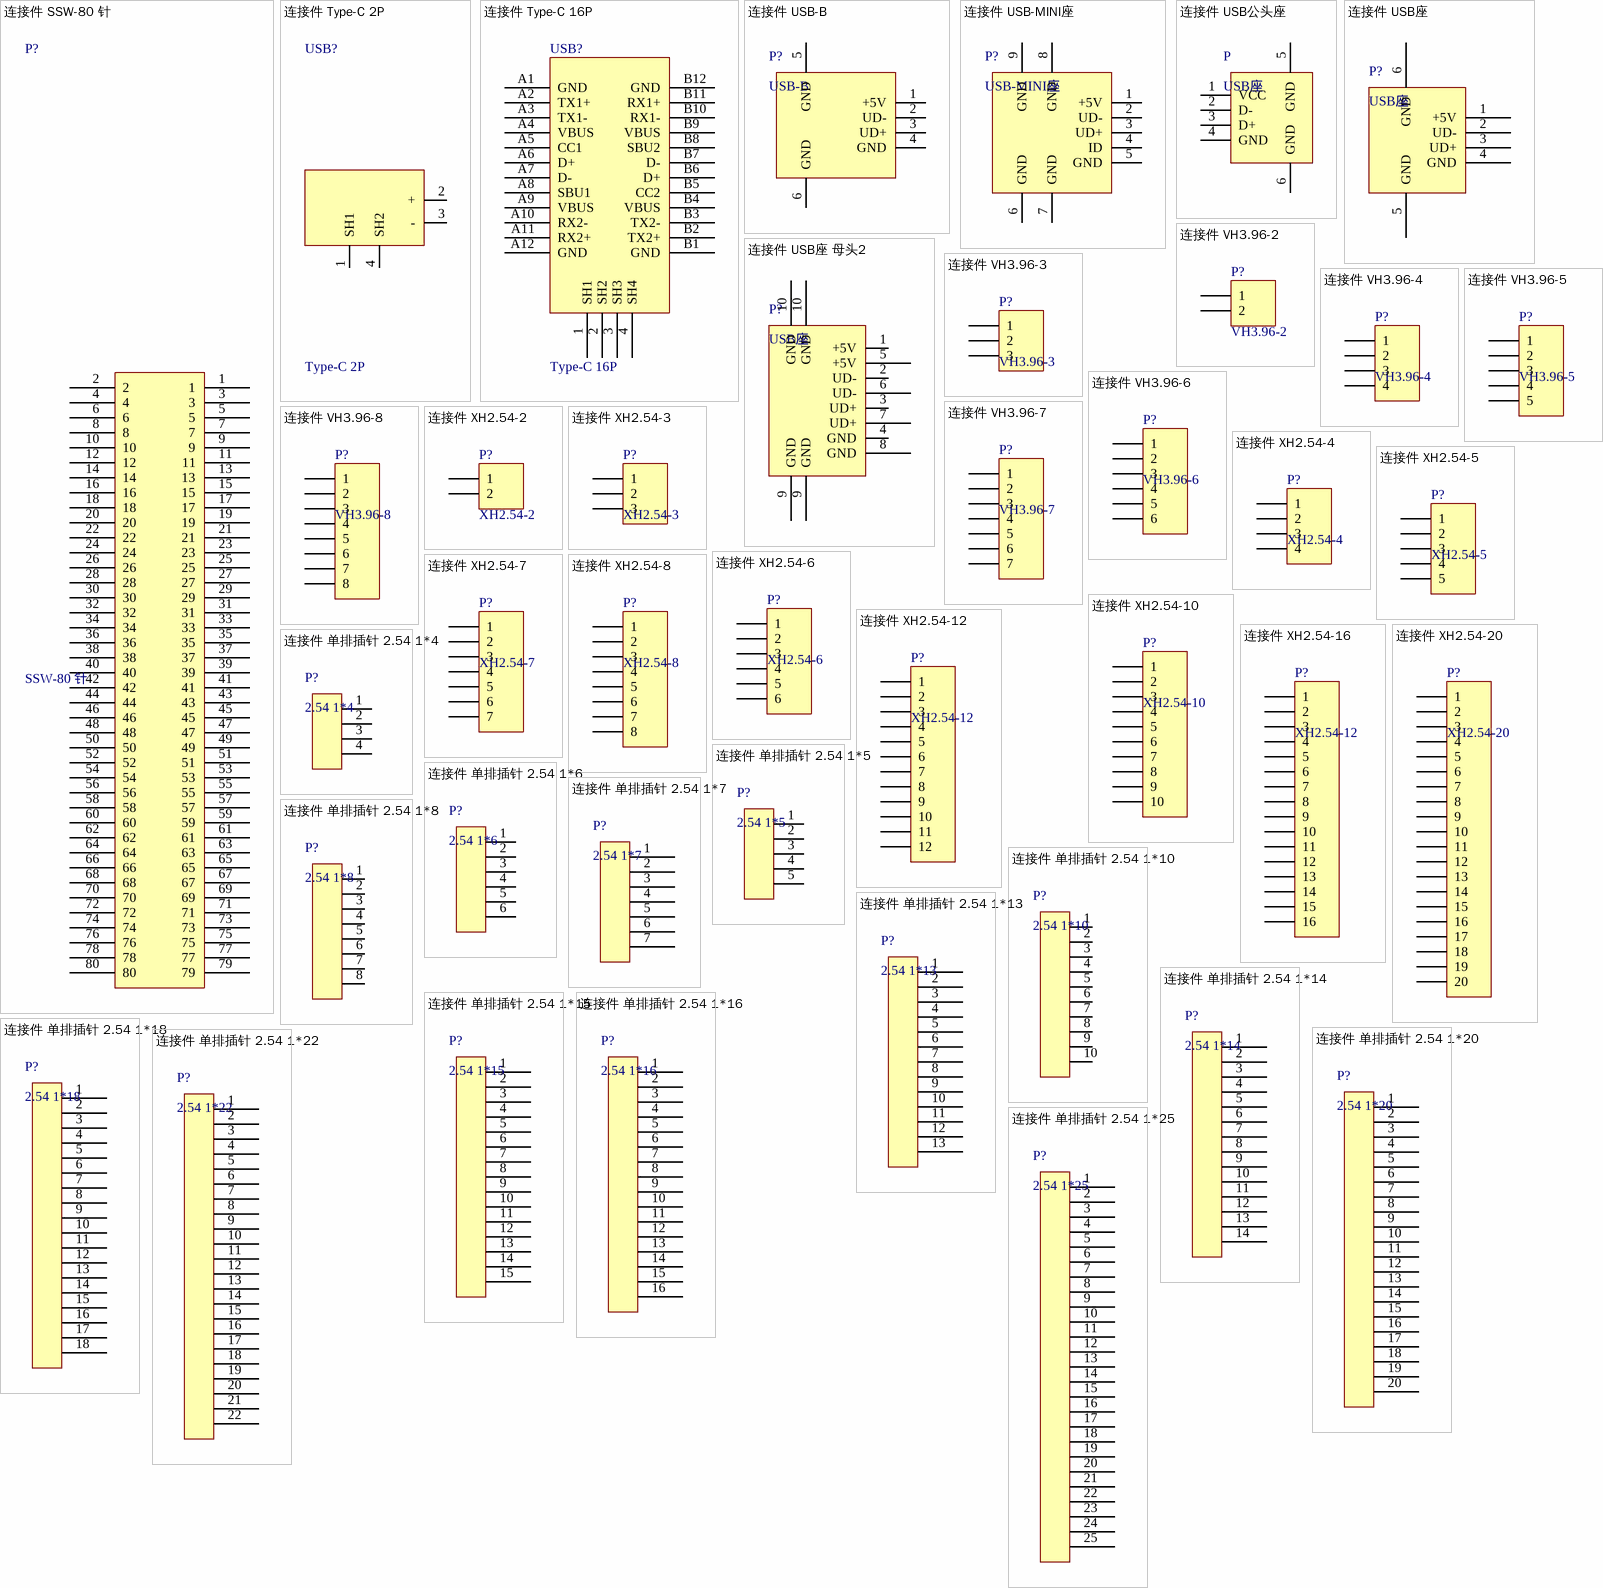
[diagram p30: symbols 连接件 SSW-80 针 to 连接件 单排插针 2.54 1*25]

## 连接件 SSW-80 针
designator P?, comment SSW-80 针
名称: 连接件; 单位: 个; 封装: SSW-80 针
footprint SSW80DBOT
pins: 1, 2, 3, 4, 5, 6, 7, 8, 9, 10, 11, 12, 13, 14, 15, 16, 17, 18, 19, 20, 21, 22, 23, 24, 25, 26, 27, 28, 29, 30, 31, 32, 33, 34, 35, 36, 37, 38, 39, 40, 41, 42, 43, 44, 45, 46, 47, 48, 49, 50, 51, 52, 53, 54, 55, 56, 57, 58, 59, 60, 61, 62, 63, 64, 65, 66, 67, 68, 69, 70, 71, 72, 73, 74, 75, 76, 77, 78, 79, 80
2 alternate drawings of the same symbol

## 连接件 Type-C 2P
designator USB?, comment Type-C 2P
footprint TYPE-C-2p
pins: 1 SH1, 2 +, 3 -, 4 SH2

## 连接件 Type-C 16P
designator USB?, comment Type-C 16P
footprint TYPE-C-SMD-16
pins: 1 SH1, 2 SH2, 3 SH3, 4 SH4, A1 GND, A2 TX1+, A3 TX1-, A4 VBUS, A5 CC1, A6 D+, A7 D-, A8 SBU1, A9 VBUS, A10 RX2-, A11 RX2+, A12 GND, B1 GND, B2 TX2+, B3 TX2-, B4 VBUS, B5 CC2, B6 D+, B7 D-, B8 SBU2, B9 VBUS, B10 RX1-, B11 RX1+, B12 GND

## 连接件 USB-B
designator P?, comment USB-B
单位: 个; 封装: 直插; 名称: 连接件
footprint USB B
pins: 1 +5V, 2 UD-, 3 UD+, 4 GND, 5 GND, 6 GND

## 连接件 USB-MINI座
designator P?, comment USB-MINI座
单位: 个; 封装: 440068; 名称: 连接件
footprint USB MINI DIP
pins: 1 +5V, 2 UD-, 3 UD+, 4 ID, 5 GND, 6 GND, 7 GND, 8 GND, 9 GND

## 连接件 USB公头座
designator P, comment USB座
封装: 直插; 单位: 片; 名称: USB座
footprint USB
pins: 1 VCC, 2 D-, 3 D+, 4 GND, 5 GND, 6 GND

## 连接件 USB座
designator P?, comment USB座
单位: 个; 封装: 440068; 名称: 联结件
footprint USB座 母头1 侧卧 (Connector; USB1.1, Reverse Type, Thru-Hole; 4 Position; Right Angle)
pins: 1 +5V, 2 UD-, 3 UD+, 4 GND, 5 GND, 6 GND

## 连接件 USB座 母头2
designator P?, comment USB座
单位: 个; 封装: 440068; 名称: 连接件
footprint USB座 母头2 侧卧 (Connector; USB1.1, Reverse Type, Thru-Hole; 4 Position; Right Angle)
pins: 1 +5V, 2 UD-, 3 UD+, 4 GND, 5 +5V, 6 UD-, 7 UD+, 8 GND, 9 GND, 9 GND, 10 GND, 10 GND

## 连接件 VH3.96-2
designator P?, comment VH3.96-2
名称: 连接件; 单位: 套; 封装: VH3.96-2
footprint VH3.96_2
pins: 1, 2

## 连接件 VH3.96-3
designator P?, comment VH3.96-3
名称: 连接件; 单位: 套; 封装: VH3.96-3
footprint VH3.96_3
pins: 1, 2, 3

## 连接件 VH3.96-4
designator P?, comment VH3.96-4
名称: 连接件; 单位: 套; 封装: VH3.96-4
footprint VH3.96_4
pins: 1, 2, 3, 4

## 连接件 VH3.96-5
designator P?, comment VH3.96-5
名称: 连接件; 单位: 套; 封装: VH3.96-5
footprint VH3.96_5
pins: 1, 2, 3, 4, 5

## 连接件 VH3.96-6
designator P?, comment VH3.96-6
名称: 连接件; 单位: 套; 封装: VH3.96-6
footprint VH3.96_6
pins: 1, 2, 3, 4, 5, 6

## 连接件 VH3.96-7
designator P?, comment VH3.96-7
名称: 连接件; 单位: 套; 封装: VH3.96-7
footprint VH3.96_7
pins: 1, 2, 3, 4, 5, 6, 7

## 连接件 VH3.96-8
designator P?, comment VH3.96-8
名称: 连接件; 单位: 套; 封装: VH3.96-8
footprint VH3.96_8
pins: 1, 2, 3, 4, 5, 6, 7, 8

## 连接件 XH2.54-2
designator P?, comment XH2.54-2
名称: 连接件; 封装: VH3.96-2; 单位: 套
footprint VH2.54_2
pins: 1, 2

## 连接件 XH2.54-3
designator P?, comment XH2.54-3
名称: 连接件; 单位: 套; 封装: XH2.54-3
footprint VH2.54_3
pins: 1, 2, 3

## 连接件 XH2.54-4
designator P?, comment XH2.54-4
名称: 连接件; 单位: 套; 封装: XH2.54-4
footprint VH2.54_4
pins: 1, 2, 3, 4

## 连接件 XH2.54-5
designator P?, comment XH2.54-5
名称: 连接件; 单位: 套; 封装: XH2.54-5
footprint VH2.54_5
pins: 1, 2, 3, 4, 5

## 连接件 XH2.54-6
designator P?, comment XH2.54-6
名称: 连接件; 单位: 套; 封装: XH2.54-6
footprint VH2.54_6
pins: 1, 2, 3, 4, 5, 6

## 连接件 XH2.54-7
designator P?, comment XH2.54-7
名称: 连接件; 单位: 套; 封装: XH2.54-7
footprint VH2.54_7
pins: 1, 2, 3, 4, 5, 6, 7

## 连接件 XH2.54-8
designator P?, comment XH2.54-8
名称: 连接件; 单位: 套; 封装: XH2.54-8
footprint VH2.54_8
pins: 1, 2, 3, 4, 5, 6, 7, 8

## 连接件 XH2.54-10
designator P?, comment XH2.54-10
名称: 连接件; 单位: 套; 封装: XH2.54-10
footprint VH2.54_10
pins: 1, 2, 3, 4, 5, 6, 7, 8, 9, 10

## 连接件 XH2.54-12
designator P?, comment XH2.54-12
名称: 连接件; 单位: 套; 封装: XH2.54-12
footprint VH2.54_12
pins: 1, 2, 3, 4, 5, 6, 7, 8, 9, 10, 11, 12

## 连接件 XH2.54-16
designator P?, comment XH2.54-12
名称: 连接件; 单位: 套; 封装: XH2.54-12
footprint VH2.54_16 (Footprint not found)
pins: 1, 2, 3, 4, 5, 6, 7, 8, 9, 10, 11, 12, 13, 14, 15, 16

## 连接件 XH2.54-20
designator P?, comment XH2.54-20
名称: 连接件; 单位: 套; 封装: XH2.54-20
footprint VH2.54_20
pins: 1, 2, 3, 4, 5, 6, 7, 8, 9, 10, 11, 12, 13, 14, 15, 16, 17, 18, 19, 20

## 连接件 单排插针 2.54 1*4
designator P?, comment 2.54 1*4
单位: 片; 封装: DIP; 名称: 单排插针
footprint 单排插针 2.54 1*4
pins: 1, 2, 3, 4

## 连接件 单排插针 2.54 1*5
designator P?, comment 2.54 1*5
单位: 片; 封装: DIP; 名称: 单排插针
footprint 单排插针 2.54 1*5
pins: 1, 2, 3, 4, 5

## 连接件 单排插针 2.54 1*6
designator P?, comment 2.54 1*6
单位: 片; 封装: DIP; 名称: 单排插针
footprint 单排插针 2.54 1*6
pins: 1, 2, 3, 4, 5, 6

## 连接件 单排插针 2.54 1*7
designator P?, comment 2.54 1*7
单位: 片; 封装: DIP; 名称: 单排插针
footprint 单排插针 2.54 1*7
pins: 1, 2, 3, 4, 5, 6, 7

## 连接件 单排插针 2.54 1*8
designator P?, comment 2.54 1*8
单位: 片; 封装: DIP; 名称: 单排插针
footprint 单排插针 2.54 1*8
pins: 1, 2, 3, 4, 5, 6, 7, 8

## 连接件 单排插针 2.54 1*10
designator P?, comment 2.54 1*10
单位: 片; 封装: DIP; 名称: 单排插针
footprint 单排插针 2.54 1*10
pins: 1, 2, 3, 4, 5, 6, 7, 8, 9, 10

## 连接件 单排插针 2.54 1*13
designator P?, comment 2.54 1*13
单位: 片; 封装: DIP; 名称: 单排插针
footprint 单排插针 2.54 1*13
pins: 1, 2, 3, 4, 5, 6, 7, 8, 9, 10, 11, 12, 13

## 连接件 单排插针 2.54 1*14
designator P?, comment 2.54 1*14
单位: 片; 封装: DIP; 名称: 单排插针
footprint 单排插针 2.54 1*14
pins: 1, 2, 3, 4, 5, 6, 7, 8, 9, 10, 11, 12, 13, 14

## 连接件 单排插针 2.54 1*15
designator P?, comment 2.54 1*15
单位: 条; 封装: DIP; 名称: 单排插针
footprint 单排插针 2.54 1*15 (Footprint not found)
pins: 1, 2, 3, 4, 5, 6, 7, 8, 9, 10, 11, 12, 13, 14, 15

## 连接件 单排插针 2.54 1*16
designator P?, comment 2.54 1*16
单位: 条; 封装: DIP; 名称: 单排插针
footprint 单排插针 2.54 1*16 (Footprint not found)
pins: 1, 2, 3, 4, 5, 6, 7, 8, 9, 10, 11, 12, 13, 14, 15, 16

## 连接件 单排插针 2.54 1*18
designator P?, comment 2.54 1*18
单位: 条; 封装: DIP; 名称: 单排插针
footprint 单排插针 2.54 1*18
pins: 1, 2, 3, 4, 5, 6, 7, 8, 9, 10, 11, 12, 13, 14, 15, 16, 17, 18

## 连接件 单排插针 2.54 1*20
designator P?, comment 2.54 1*20
单位: 条; 封装: DIP; 名称: 单排插针
footprint 单排插针 2.54 1*20
pins: 1, 2, 3, 4, 5, 6, 7, 8, 9, 10, 11, 12, 13, 14, 15, 16, 17, 18, 19, 20

## 连接件 单排插针 2.54 1*22
designator P?, comment 2.54 1*22
单位: 条; 封装: DIP; 名称: 单排插针
footprint 单排插针 2.54 1*22
pins: 1, 2, 3, 4, 5, 6, 7, 8, 9, 10, 11, 12, 13, 14, 15, 16, 17, 18, 19, 20, 21, 22

## 连接件 单排插针 2.54 1*25
designator P?, comment 2.54 1*25
单位: 片; 封装: DIP; 名称: 单排插针
footprint 单排插针 2.54 1*25 (Footprint not found)
pins: 1, 2, 3, 4, 5, 6, 7, 8, 9, 10, 11, 12, 13, 14, 15, 16, 17, 18, 19, 20, 21, 22, 23, 24, 25

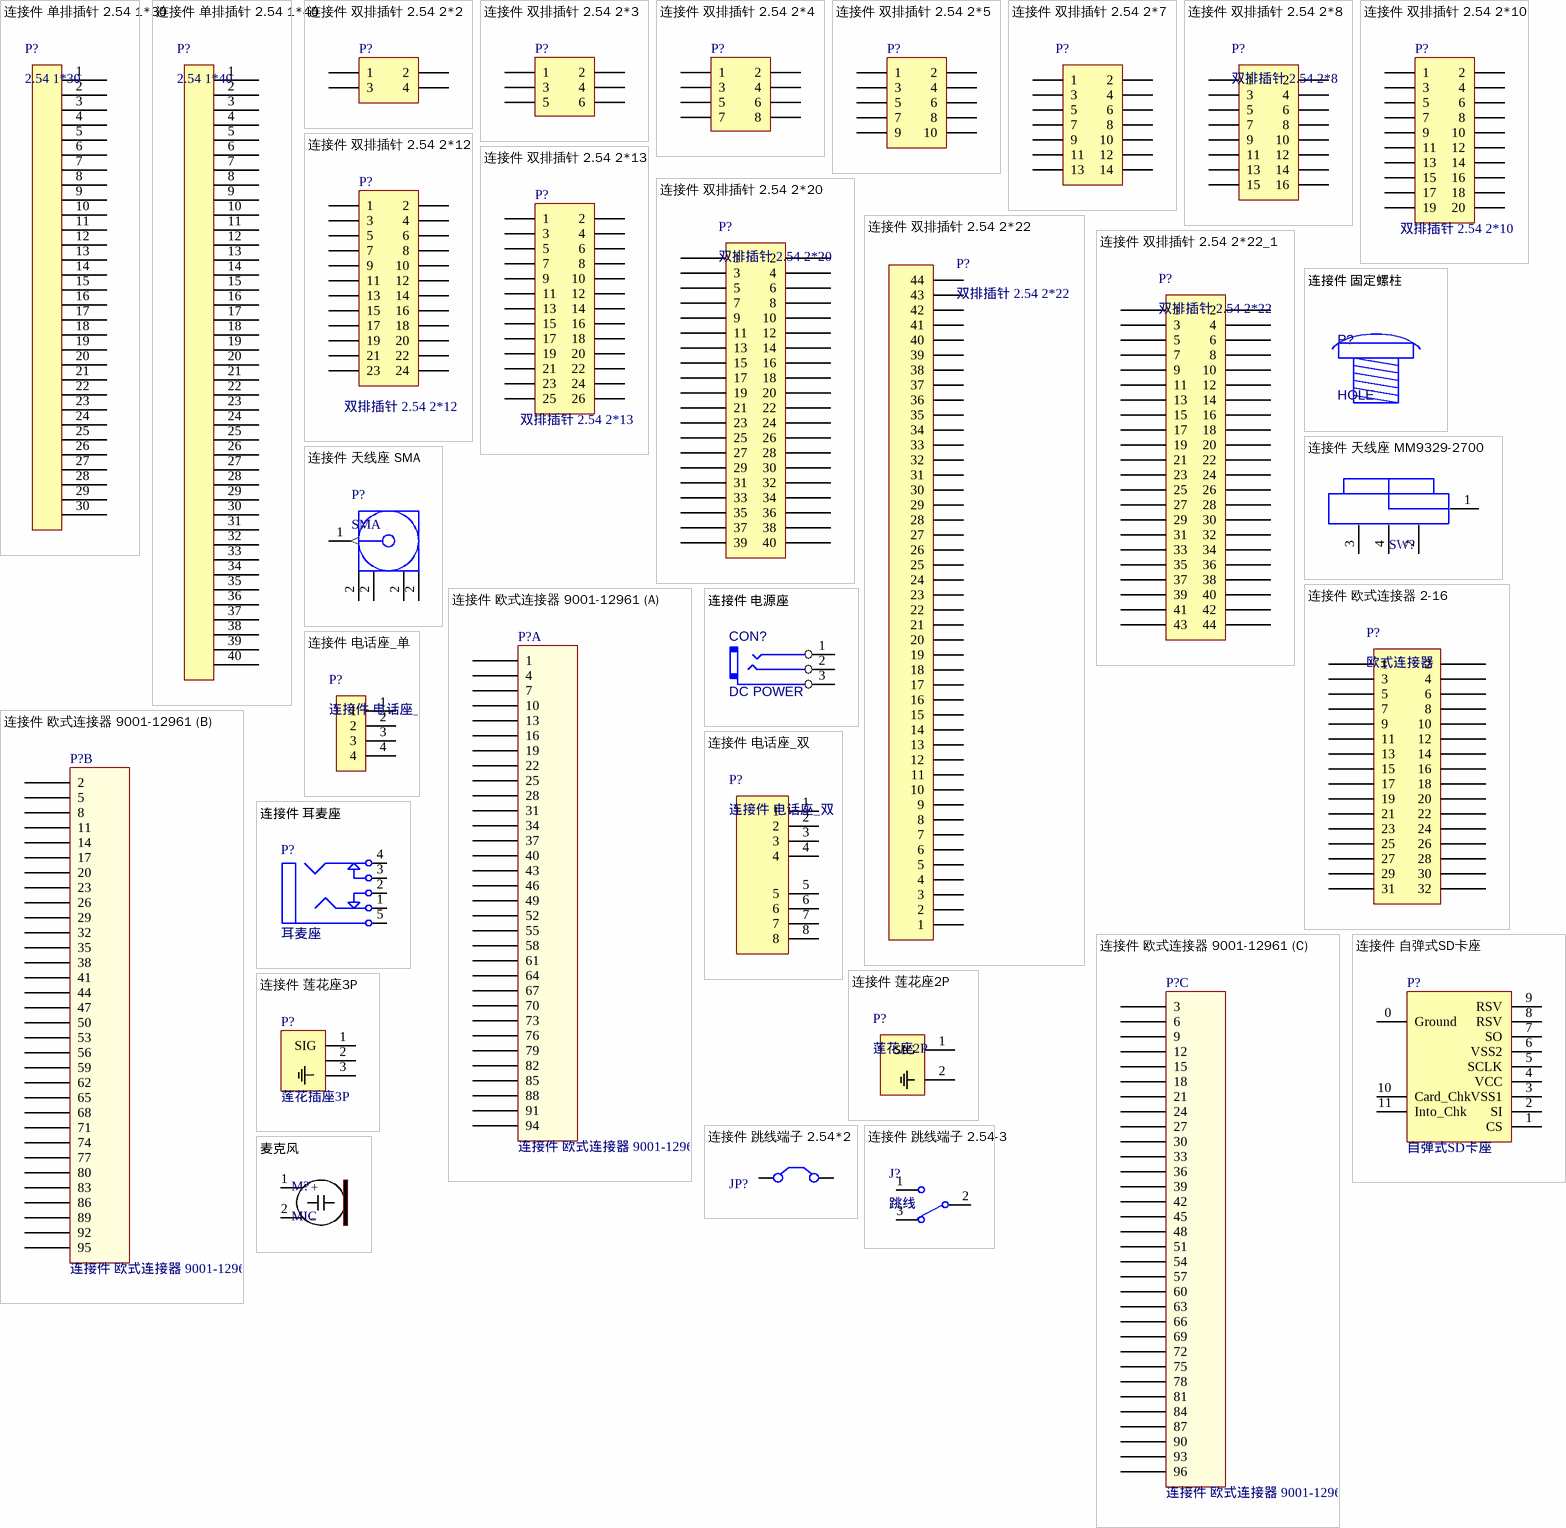
[diagram p31: symbols 连接件 单排插针 2.54 1*30 to 麦克风]

## 连接件 单排插针 2.54 1*30
designator P?, comment 2.54 1*30
单位: 片; 封装: DIP; 名称: 单排插针
footprint 单排插针 2.54 1*30
pins: 1, 2, 3, 4, 5, 6, 7, 8, 9, 10, 11, 12, 13, 14, 15, 16, 17, 18, 19, 20, 21, 22, 23, 24, 25, 26, 27, 28, 29, 30

## 连接件 单排插针 2.54 1*40
designator P?, comment 2.54 1*40
单位: 片; 封装: DIP; 名称: 单排插针
footprint 单排插针 2.54 1*40
pins: 1, 2, 3, 4, 5, 6, 7, 8, 9, 10, 11, 12, 13, 14, 15, 16, 17, 18, 19, 20, 21, 22, 23, 24, 25, 26, 27, 28, 29, 30, 31, 32, 33, 34, 35, 36, 37, 38, 39, 40

## 连接件 双排插针 2.54 2*2
designator P?, comment 双排插针 2.54 2*2  (value not drawn)
名称: 联结件; 单位: 个; 封装: 直插
footprint 双排插针 2.54 2*2 (Footprint not found)
pins: 1, 2, 3, 4

## 连接件 双排插针 2.54 2*3
designator P?, comment 双排插针 2.54 2*3  (value not drawn)
名称: 联结件; 单位: 个; 封装: 直插
footprint 双排插针 2.54 2*3
pins: 1, 2, 3, 4, 5, 6

## 连接件 双排插针 2.54 2*4
designator P?, comment 双排插针 2.54 2*4  (value not drawn)
名称: 联结件; 单位: 个; 封装: 直插
footprint 双排插针 2.54 2*4
pins: 1, 2, 3, 4, 5, 6, 7, 8

## 连接件 双排插针 2.54 2*5
designator P?, comment 双排插针 2.54 2*5  (value not drawn)
名称: 联结件; 单位: 个; 封装: 直插
footprint 双排插针 2.54 2*5
pins: 1, 2, 3, 4, 5, 6, 7, 8, 9, 10

## 连接件 双排插针 2.54 2*7
designator P?, comment 双排插针 2.54 2*7  (value not drawn)
footprint 双排插针 2.54 2*7
pins: 1, 2, 3, 4, 5, 6, 7, 8, 9, 10, 11, 12, 13, 14

## 连接件 双排插针 2.54 2*8
designator P?, comment 双排插针 2.54 2*8
单位: 个; 封装: DC 2.54 2*8; 名称: 连接件
footprint 双排插针 2.54 2*8
pins: 1, 2, 3, 4, 5, 6, 7, 8, 9, 10, 11, 12, 13, 14, 15, 16

## 连接件 双排插针 2.54 2*10
designator P?, comment 封装: 双排插针 2.54 2*10  (hidden comment: 双排插针2.54 2*10)
名称: 联结件; 单位: 个
footprint 双排插针 2.54 2*10
pins: 1, 2, 3, 4, 5, 6, 7, 8, 9, 10, 11, 12, 13, 14, 15, 16, 17, 18, 19, 20

## 连接件 双排插针 2.54 2*12
designator P?, comment 封装: 双排插针 2.54 2*12  (hidden comment: 双排插针2.54 2*12)
名称: 联结件; 单位: 个
footprint 双排插针 2.54 2*12
pins: 1, 2, 3, 4, 5, 6, 7, 8, 9, 10, 11, 12, 13, 14, 15, 16, 17, 18, 19, 20, 21, 22, 23, 24

## 连接件 双排插针 2.54 2*13
designator P?, comment 封装: 双排插针 2.54 2*13  (hidden comment: 双排插针2.54 2*13)
名称: 联结件; 单位: 个
footprint 双排插针 2.54 2*13
pins: 1, 2, 3, 4, 5, 6, 7, 8, 9, 10, 11, 12, 13, 14, 15, 16, 17, 18, 19, 20, 21, 22, 23, 24, 25, 26

## 连接件 双排插针 2.54 2*20
designator P?, comment 双排插针 2.54 2*20
单位: 个; 封装: DC 2.54 2*20; 名称: 联结件
footprint 双排插针 2.54 2*20
pins: 1, 2, 3, 4, 5, 6, 7, 8, 9, 10, 11, 12, 13, 14, 15, 16, 17, 18, 19, 20, 21, 22, 23, 24, 25, 26, 27, 28, 29, 30, 31, 32, 33, 34, 35, 36, 37, 38, 39, 40

## 连接件 双排插针 2.54 2*22
designator P?, comment 双排插针 2.54 2*22
单位: 个; 封装: DC 2.54 2*22; 名称: 联结件
footprint 双排插针 2.54 2*22
pins: 1, 2, 3, 4, 5, 6, 7, 8, 9, 10, 11, 12, 13, 14, 15, 16, 17, 18, 19, 20, 21, 22, 23, 24, 25, 26, 27, 28, 29, 30, 31, 32, 33, 34, 35, 36, 37, 38, 39, 40, 41, 42, 43, 44

## 连接件 双排插针 2.54 2*22_1
designator P?, comment 双排插针 2.54 2*22
单位: 个; 封装: DC 2.54 2*22; 名称: 联结件
footprint 双排插针 2.54 2*22
pins: 1, 2, 3, 4, 5, 6, 7, 8, 9, 10, 11, 12, 13, 14, 15, 16, 17, 18, 19, 20, 21, 22, 23, 24, 25, 26, 27, 28, 29, 30, 31, 32, 33, 34, 35, 36, 37, 38, 39, 40, 41, 42, 43, 44

## 连接件 固定螺柱
designator P?, comment HOLE
footprint 铜柱 M3六角 (Footprint not found)
2 alternate drawings of the same symbol

## 连接件 天线座 MM9329-2700
designator SW?, comment MM9329-2700  (value not drawn)
50ohm, RF Coaxial Connector; 单位: 个; 名称: 天线座; 封装: 贴片
footprint 天线座 贴
pins: 1, 2, 3, 4
2 alternate drawings of the same symbol

## 连接件 天线座 SMA
designator P?, comment SMA
单位: 个; 封装: 直插; 名称: 联接件
footprint 天线座 50ohm 直立
pins: 1 Signal (out) "Signal Pin", 2 (power), 2 (power), 2 (power), 2 (power)

## 连接件 欧式连接器 2-16
designator P?, comment 欧式连接器
单位: 个; 封装: 直插; 名称: 欧式连接件
footprint 欧式连接件 2.54 2*16 弯座
pins: 1, 2, 3, 4, 5, 6, 7, 8, 9, 10, 11, 12, 13, 14, 15, 16, 17, 18, 19, 20, 21, 22, 23, 24, 25, 26, 27, 28, 29, 30, 31, 32

## 连接件 欧式连接器 9001-12961
designator P?
footprint 欧式插座 9001-12961
part A pins: 1, 4, 7, 10, 13, 16, 19, 22, 25, 28, 31, 34, 37, 40, 43, 46, 49, 52, 55, 58, 61, 64, 67, 70, 73, 76, 79, 82, 85, 88, 91, 94
part B pins: 2, 5, 8, 11, 14, 17, 20, 23, 26, 29, 32, 35, 38, 41, 44, 47, 50, 53, 56, 59, 62, 65, 68, 71, 74, 77, 80, 83, 86, 89, 92, 95
part C pins: 3, 6, 9, 12, 15, 18, 21, 24, 27, 30, 33, 36, 39, 42, 45, 48, 51, 54, 57, 60, 63, 66, 69, 72, 75, 78, 81, 84, 87, 90, 93, 96

## 连接件 电源座
designator CON?, comment DC POWER
footprint Power  2.1mm
pins: 1, 2, 3
2 alternate drawings of the same symbol

## 连接件 电话座_单
designator P?
单位: 个; 封装: DIP; 名称: 电话座_单
footprint 电话座_单
pins: 1, 2, 3, 4

## 连接件 电话座_双
designator P?
单位: 个; 封装: DIP; 名称: 电话座_双
footprint 电话座_双
pins: 1, 2, 3, 4, 5, 6, 7, 8

## 连接件 耳麦座
designator P?, comment 耳麦座
名称: 联结件; 单位: 个; 封装: 耳麦座
footprint 音频插座
pins: 1, 2, 3, 4, 5

## 连接件 自弹式SD卡座
designator P?, comment 自弹式SD卡座
名称: 联结件; 单位: 个; 封装: 自弹式SD卡座
footprint SD_CARD (Footprint not found)
footprint SD_PUSH (www.ouravr.com)
pins: 0 Ground, 1 CS, 2 SI, 3 VSS1, 4 VCC, 5 SCLK, 6 VSS2, 7 SO, 8 RSV, 9 RSV, 10 Card_Chk, 11 Into_Chk

## 连接件 莲花座2P
designator P?, comment 莲花座2P
footprint 莲花座 2P
pins: 1 SIG, 2 Sig

## 连接件 莲花座3P
designator P?, comment 莲花插座3P
footprint 莲花座 3P
pins: 1 SIG, 2 Sig, 3

## 连接件 跳线端子 2.54*2
designator JP?, comment 单排插针  (value not drawn)
名称: 联结件; 单位: 个
footprint 单排插针 2.54 1*2 (Connector; Header; 2 Position)
pins: 1 C1, 2 C2

## 连接件 跳线端子 2.54-3
designator J?, comment 跳线
单位: 个; 封装: 直插; 名称: 跳线插针
footprint 单排插针 2.54 1*3
pins: 1, 2, 3

## 麦克风
designator M?, comment MIC
单位: 个; 名称: 麦克风; 封装: 直插
footprint 麦克风 卧贴 (Connector; Header; 2 Position)
pins: 1 +, 2 -